# Altium schematic symbol library Altera.SchLib: 9 symbols (part 1 of 3)
Pins are listed as number, name and electrical type; pins without a type are passive.

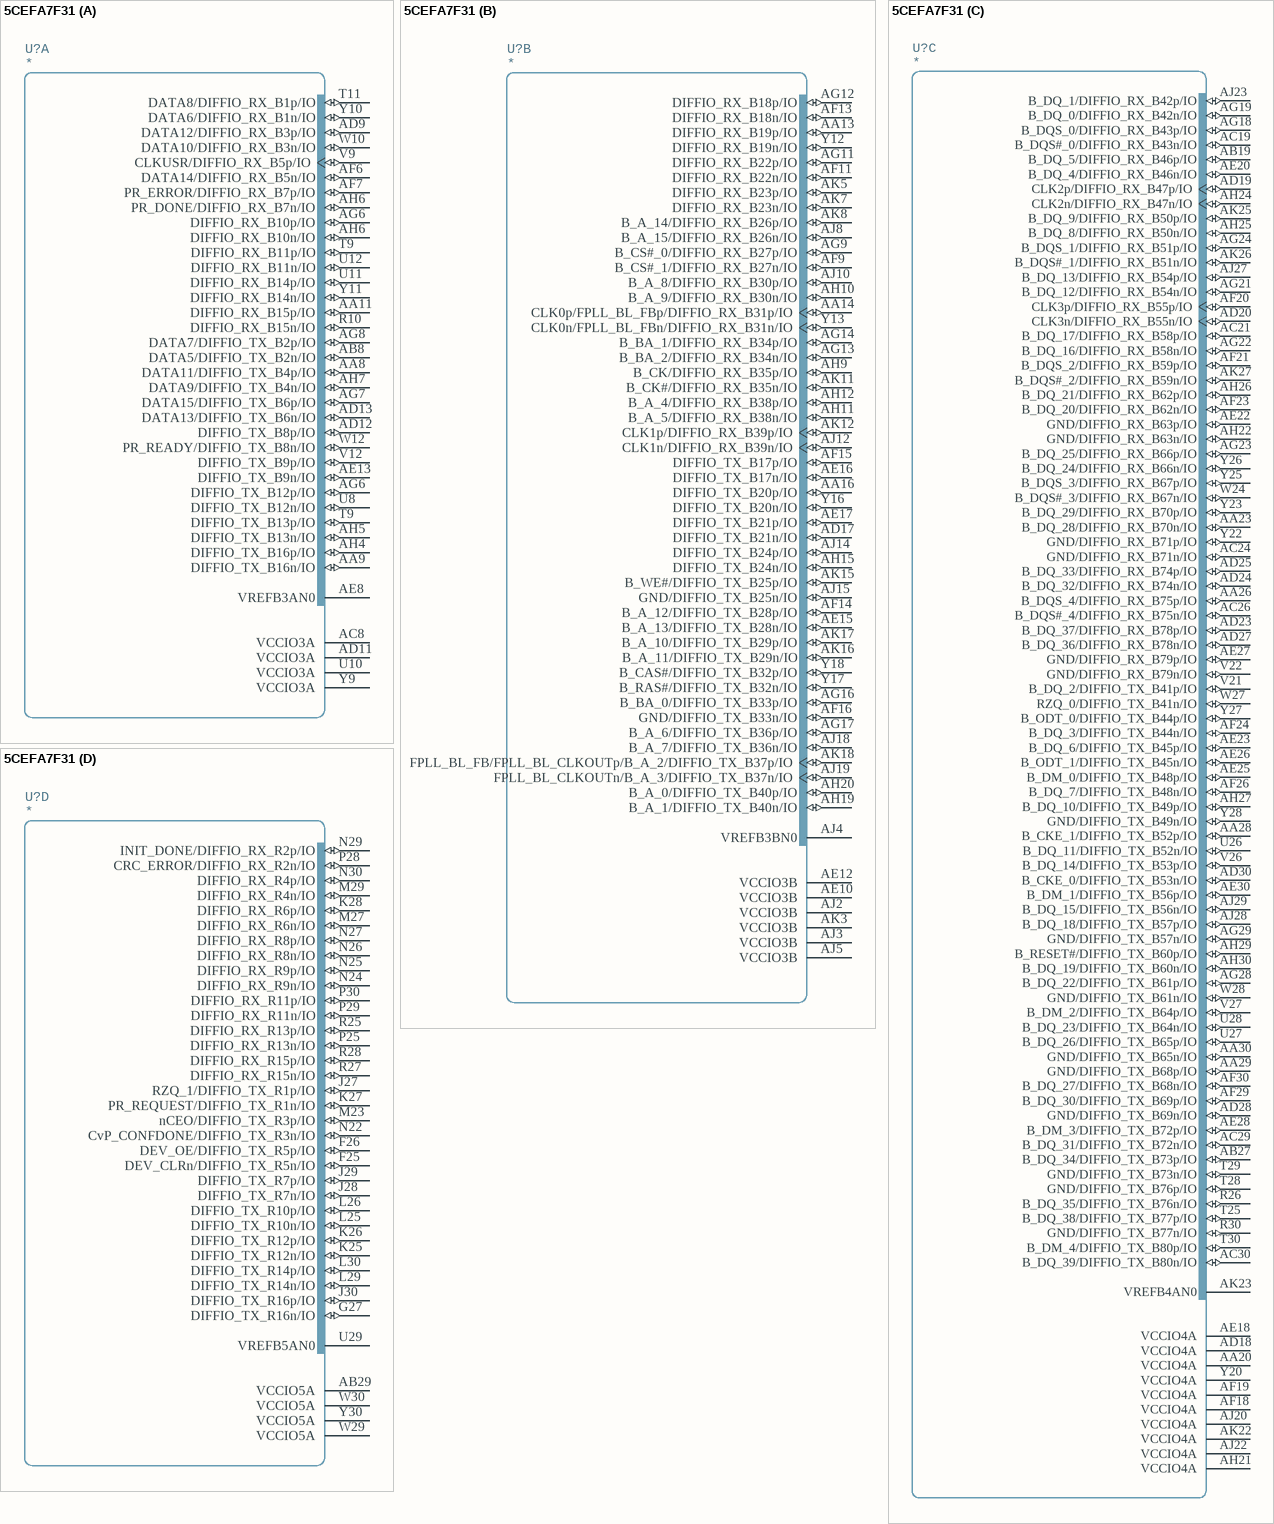
[diagram p0: symbol 5CEFA7F31]

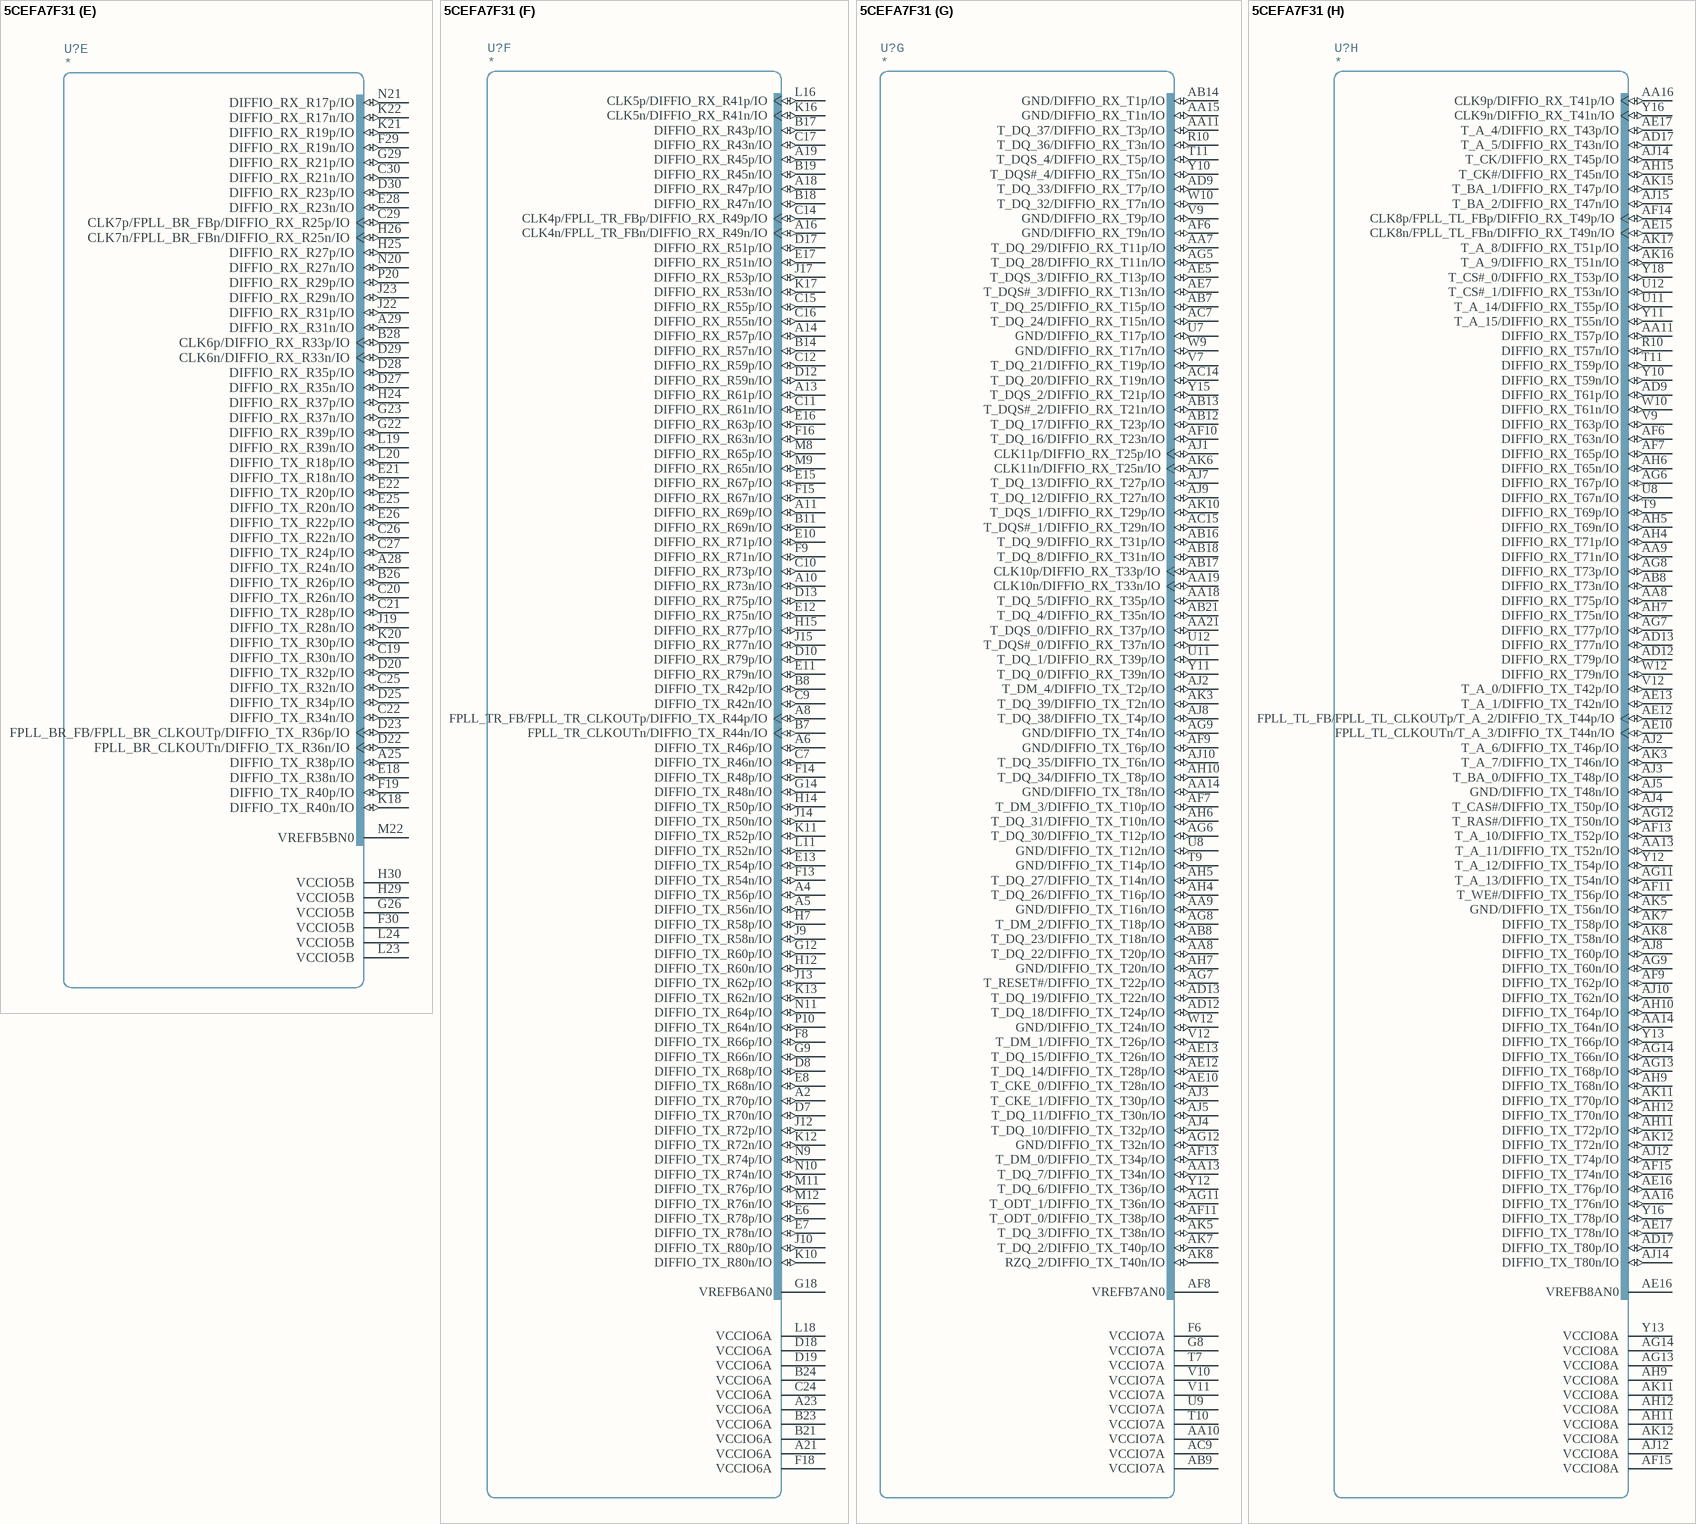
[diagram p1: symbol 5CEFA7F31]

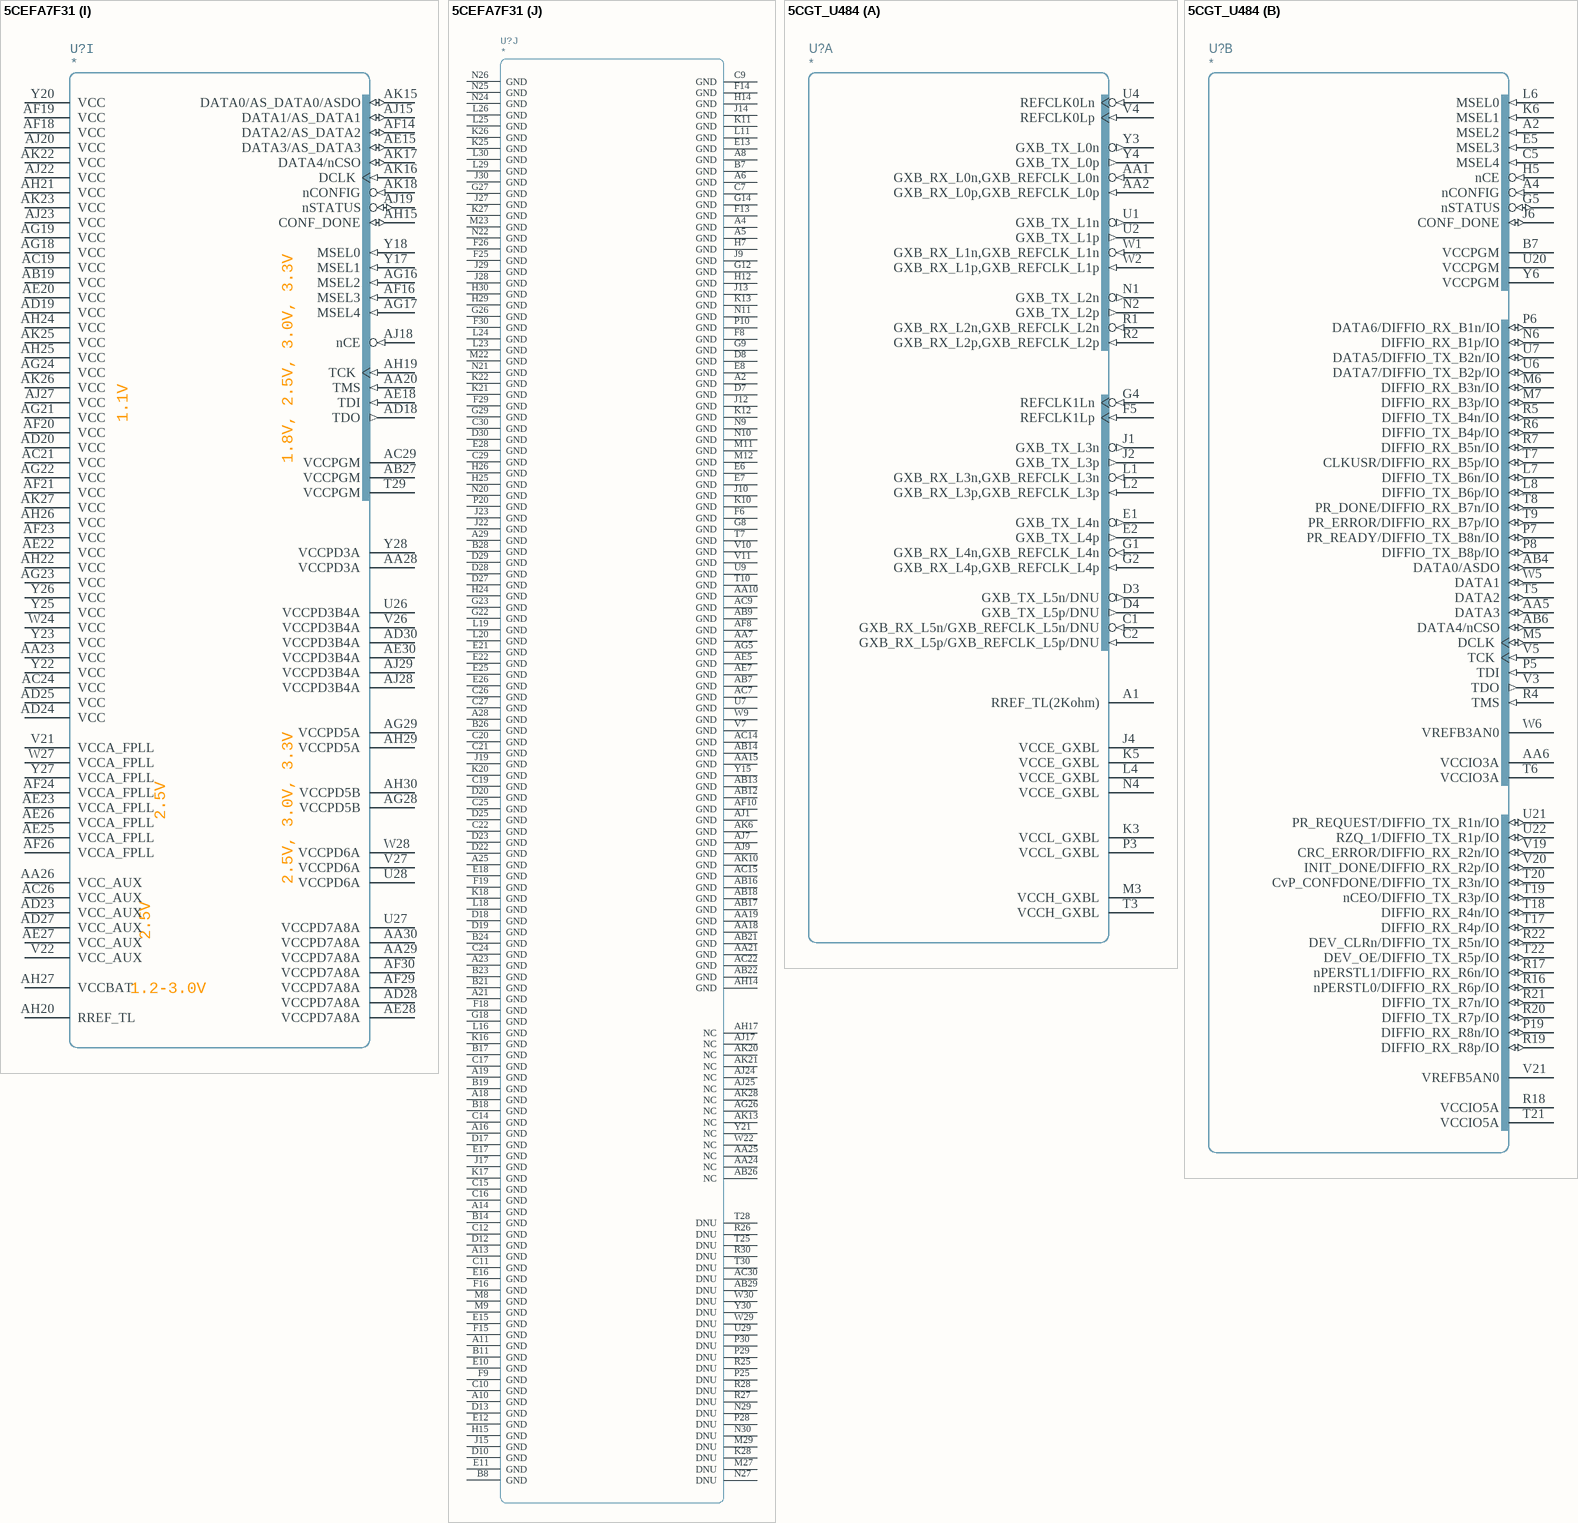
[diagram p2: symbols 5CEFA7F31 to 5CGT_U484]

## 5CEFA7F31
designator U?
part A pins: AA8 DATA11/DIFFIO_TX_B4p/IO (io), AA9 DIFFIO_TX_B16n/IO (io), AA11 DIFFIO_RX_B15p/IO (io), AB8 DATA5/DIFFIO_TX_B2n/IO (io), AC8 VCCIO3A, AD9 DATA12/DIFFIO_RX_B3p/IO (io), AD11 VCCIO3A, AD12 DIFFIO_TX_B8p/IO (io), AD13 DATA13/DIFFIO_TX_B6n/IO (io), AE8 VREFB3AN0, AE13 DIFFIO_TX_B9n/IO (io), AF6 DATA14/DIFFIO_RX_B5n/IO (io), AF7 PR_ERROR/DIFFIO_RX_B7p/IO (io), AG6 DIFFIO_RX_B10p/IO (io), AG6 DIFFIO_TX_B12p/IO (io), AG7 DATA15/DIFFIO_TX_B6p/IO (io), AG8 DATA7/DIFFIO_TX_B2p/IO (io), AH4 DIFFIO_TX_B16p/IO (io), AH5 DIFFIO_TX_B13n/IO (io), AH6 DIFFIO_RX_B10n/IO (io), AH6 PR_DONE/DIFFIO_RX_B7n/IO (io), AH7 DATA9/DIFFIO_TX_B4n/IO (io), R10 DIFFIO_RX_B15n/IO (io), T9 DIFFIO_RX_B11p/IO (io), T9 DIFFIO_TX_B13p/IO (io), T11 DATA8/DIFFIO_RX_B1p/IO (io), U8 DIFFIO_TX_B12n/IO (io), U10 VCCIO3A, U11 DIFFIO_RX_B14p/IO (io), U12 DIFFIO_RX_B11n/IO (io), V9 CLKUSR/DIFFIO_RX_B5p/IO (io), V12 DIFFIO_TX_B9p/IO (io), W10 DATA10/DIFFIO_RX_B3n/IO (io), W12 PR_READY/DIFFIO_TX_B8n/IO (io), Y9 VCCIO3A, Y10 DATA6/DIFFIO_RX_B1n/IO (io), Y11 DIFFIO_RX_B14n/IO (io)
part B pins: AA13 DIFFIO_RX_B19p/IO (io), AA14 CLK0p/FPLL_BL_FBp/DIFFIO_RX_B31p/IO (io), AA16 DIFFIO_TX_B20p/IO (io), AD17 DIFFIO_TX_B21n/IO (io), AE10 VCCIO3B, AE12 VCCIO3B, AE15 B_A_13/DIFFIO_TX_B28n/IO (io), AE16 DIFFIO_TX_B17n/IO (io), AE17 DIFFIO_TX_B21p/IO (io), AF9 B_CS#_1/DIFFIO_RX_B27n/IO (io), AF11 DIFFIO_RX_B22n/IO (io), AF13 DIFFIO_RX_B18n/IO (io), AF14 B_A_12/DIFFIO_TX_B28p/IO (io), AF15 DIFFIO_TX_B17p/IO (io), AF16 GND/DIFFIO_TX_B33n/IO (io), AG9 B_CS#_0/DIFFIO_RX_B27p/IO (io), AG11 DIFFIO_RX_B22p/IO (io), AG12 DIFFIO_RX_B18p/IO (io), AG13 B_BA_2/DIFFIO_RX_B34n/IO (io), AG14 B_BA_1/DIFFIO_RX_B34p/IO (io), AG16 B_BA_0/DIFFIO_TX_B33p/IO (io), AG17 B_A_6/DIFFIO_TX_B36p/IO (io), AH9 B_CK/DIFFIO_RX_B35p/IO (io), AH10 B_A_9/DIFFIO_RX_B30n/IO (io), AH11 B_A_5/DIFFIO_RX_B38n/IO (io), AH12 B_A_4/DIFFIO_RX_B38p/IO (io), AH15 DIFFIO_TX_B24n/IO (io), AH19 B_A_1/DIFFIO_TX_B40n/IO (io), AH20 B_A_0/DIFFIO_TX_B40p/IO (io), AJ2 VCCIO3B, AJ3 VCCIO3B, AJ4 VREFB3BN0, AJ5 VCCIO3B, AJ8 B_A_15/DIFFIO_RX_B26n/IO (io), AJ10 B_A_8/DIFFIO_RX_B30p/IO (io), AJ12 CLK1n/DIFFIO_RX_B39n/IO (io), AJ14 DIFFIO_TX_B24p/IO (io), AJ15 GND/DIFFIO_TX_B25n/IO (io), AJ18 B_A_7/DIFFIO_TX_B36n/IO (io), AJ19 FPLL_BL_CLKOUTn/B_A_3/DIFFIO_TX_B37n/IO (io), AK3 VCCIO3B, AK5 DIFFIO_RX_B23p/IO (io), AK7 DIFFIO_RX_B23n/IO (io), AK8 B_A_14/DIFFIO_RX_B26p/IO (io), AK11 B_CK#/DIFFIO_RX_B35n/IO (io), AK12 CLK1p/DIFFIO_RX_B39p/IO (io), AK15 B_WE#/DIFFIO_TX_B25p/IO (io), AK16 B_A_11/DIFFIO_TX_B29n/IO (io), AK17 B_A_10/DIFFIO_TX_B29p/IO (io), AK18 FPLL_BL_FB/FPLL_BL_CLKOUTp/B_A_2/DIFFIO_TX_B37p/IO (io), Y12 DIFFIO_RX_B19n/IO (io), Y13 CLK0n/FPLL_BL_FBn/DIFFIO_RX_B31n/IO (io), Y16 DIFFIO_TX_B20n/IO (io), Y17 B_RAS#/DIFFIO_TX_B32n/IO (io), Y18 B_CAS#/DIFFIO_TX_B32p/IO (io)
part C pins: AA20 VCCIO4A, AA23 B_DQ_28/DIFFIO_RX_B70n/IO (io), AA26 B_DQS_4/DIFFIO_RX_B75p/IO (io), AA28 B_CKE_1/DIFFIO_TX_B52p/IO (io), AA29 GND/DIFFIO_TX_B68p/IO (io), AA30 GND/DIFFIO_TX_B65n/IO (io), AB19 B_DQ_5/DIFFIO_RX_B46p/IO (io), AB27 B_DQ_34/DIFFIO_TX_B73p/IO (io), AC19 B_DQS#_0/DIFFIO_RX_B43n/IO (io), AC21 B_DQ_17/DIFFIO_RX_B58p/IO (io), AC24 GND/DIFFIO_RX_B71n/IO (io), AC26 B_DQS#_4/DIFFIO_RX_B75n/IO (io), AC29 B_DQ_31/DIFFIO_TX_B72n/IO (io), AC30 B_DQ_39/DIFFIO_TX_B80n/IO (io), AD18 VCCIO4A, AD19 CLK2p/DIFFIO_RX_B47p/IO (io), AD20 CLK3n/DIFFIO_RX_B55n/IO (io), AD23 B_DQ_37/DIFFIO_RX_B78p/IO (io), AD24 B_DQ_32/DIFFIO_RX_B74n/IO (io), AD25 B_DQ_33/DIFFIO_RX_B74p/IO (io), AD27 B_DQ_36/DIFFIO_RX_B78n/IO (io), AD28 GND/DIFFIO_TX_B69n/IO (io), AD30 B_CKE_0/DIFFIO_TX_B53n/IO (io), AE18 VCCIO4A, AE20 B_DQ_4/DIFFIO_RX_B46n/IO (io), AE22 GND/DIFFIO_RX_B63p/IO (io), AE23 B_DQ_6/DIFFIO_TX_B45p/IO (io), AE25 B_DM_0/DIFFIO_TX_B48p/IO (io), AE26 B_ODT_1/DIFFIO_TX_B45n/IO (io), AE27 GND/DIFFIO_RX_B79p/IO (io), AE28 B_DM_3/DIFFIO_TX_B72p/IO (io), AE30 B_DM_1/DIFFIO_TX_B56p/IO (io), AF18 VCCIO4A, AF19 VCCIO4A, AF20 CLK3p/DIFFIO_RX_B55p/IO (io), AF21 B_DQS_2/DIFFIO_RX_B59p/IO (io), AF23 B_DQ_20/DIFFIO_RX_B62n/IO (io), AF24 B_DQ_3/DIFFIO_TX_B44n/IO (io), AF26 B_DQ_7/DIFFIO_TX_B48n/IO (io), AF29 B_DQ_30/DIFFIO_TX_B69p/IO (io), AF30 B_DQ_27/DIFFIO_TX_B68n/IO (io), AG18 B_DQS_0/DIFFIO_RX_B43p/IO (io), AG19 B_DQ_0/DIFFIO_RX_B42n/IO (io), AG21 B_DQ_12/DIFFIO_RX_B54n/IO (io), AG22 B_DQ_16/DIFFIO_RX_B58n/IO (io), AG23 B_DQ_25/DIFFIO_RX_B66p/IO (io), AG24 B_DQS_1/DIFFIO_RX_B51p/IO (io), AG28 B_DQ_22/DIFFIO_TX_B61p/IO (io), AG29 GND/DIFFIO_TX_B57n/IO (io), AH21 VCCIO4A, AH22 GND/DIFFIO_RX_B63n/IO (io), AH24 CLK2n/DIFFIO_RX_B47n/IO (io), AH25 B_DQ_8/DIFFIO_RX_B50n/IO (io), AH26 B_DQ_21/DIFFIO_RX_B62p/IO (io), AH27 B_DQ_10/DIFFIO_TX_B49p/IO (io), AH29 B_RESET#/DIFFIO_TX_B60p/IO (io), AH30 B_DQ_19/DIFFIO_TX_B60n/IO (io), AJ20 VCCIO4A, AJ22 VCCIO4A, AJ23 B_DQ_1/DIFFIO_RX_B42p/IO (io), AJ27 B_DQ_13/DIFFIO_RX_B54p/IO (io), AJ28 B_DQ_18/DIFFIO_TX_B57p/IO (io), AJ29 B_DQ_15/DIFFIO_TX_B56n/IO (io), AK22 VCCIO4A, AK23 VREFB4AN0, AK25 B_DQ_9/DIFFIO_RX_B50p/IO (io), AK26 B_DQS#_1/DIFFIO_RX_B51n/IO (io), AK27 B_DQS#_2/DIFFIO_RX_B59n/IO (io), R26 B_DQ_35/DIFFIO_TX_B76n/IO (io), R30 GND/DIFFIO_TX_B77n/IO (io), T25 B_DQ_38/DIFFIO_TX_B77p/IO (io), T28 GND/DIFFIO_TX_B76p/IO (io), T29 GND/DIFFIO_TX_B73n/IO (io), T30 B_DM_4/DIFFIO_TX_B80p/IO (io), U26 B_DQ_11/DIFFIO_TX_B52n/IO (io), U27 B_DQ_26/DIFFIO_TX_B65p/IO (io), U28 B_DQ_23/DIFFIO_TX_B64n/IO (io), V21 B_DQ_2/DIFFIO_TX_B41p/IO (io), V22 GND/DIFFIO_RX_B79n/IO (io), V26 B_DQ_14/DIFFIO_TX_B53p/IO (io), V27 B_DM_2/DIFFIO_TX_B64p/IO (io), W24 B_DQS#_3/DIFFIO_RX_B67n/IO (io), W27 RZQ_0/DIFFIO_TX_B41n/IO (io), W28 GND/DIFFIO_TX_B61n/IO (io), Y20 VCCIO4A, Y22 GND/DIFFIO_RX_B71p/IO (io), Y23 B_DQ_29/DIFFIO_RX_B70p/IO (io), Y25 B_DQS_3/DIFFIO_RX_B67p/IO (io), Y26 B_DQ_24/DIFFIO_RX_B66n/IO (io), Y27 B_ODT_0/DIFFIO_TX_B44p/IO (io), Y28 GND/DIFFIO_TX_B49n/IO (io)
part D pins: AB29 VCCIO5A, F25 DEV_CLRn/DIFFIO_TX_R5n/IO (io), F26 DEV_OE/DIFFIO_TX_R5p/IO (io), G27 DIFFIO_TX_R16n/IO (io), J27 RZQ_1/DIFFIO_TX_R1p/IO (io), J28 DIFFIO_TX_R7n/IO (io), J29 DIFFIO_TX_R7p/IO (io), J30 DIFFIO_TX_R16p/IO (io), K25 DIFFIO_TX_R12n/IO (io), K26 DIFFIO_TX_R12p/IO (io), K27 PR_REQUEST/DIFFIO_TX_R1n/IO (io), K28 DIFFIO_RX_R6p/IO (io), L25 DIFFIO_TX_R10n/IO (io), L26 DIFFIO_TX_R10p/IO (io), L29 DIFFIO_TX_R14n/IO (io), L30 DIFFIO_TX_R14p/IO (io), M23 nCEO/DIFFIO_TX_R3p/IO (io), M27 DIFFIO_RX_R6n/IO (io), M29 DIFFIO_RX_R4n/IO (io), N22 CvP_CONFDONE/DIFFIO_TX_R3n/IO (io), N24 DIFFIO_RX_R9n/IO (io), N25 DIFFIO_RX_R9p/IO (io), N26 DIFFIO_RX_R8n/IO (io), N27 DIFFIO_RX_R8p/IO (io), N29 INIT_DONE/DIFFIO_RX_R2p/IO (io), N30 DIFFIO_RX_R4p/IO (io), P25 DIFFIO_RX_R13n/IO (io), P28 CRC_ERROR/DIFFIO_RX_R2n/IO (io), P29 DIFFIO_RX_R11n/IO (io), P30 DIFFIO_RX_R11p/IO (io), R25 DIFFIO_RX_R13p/IO (io), R27 DIFFIO_RX_R15n/IO (io), R28 DIFFIO_RX_R15p/IO (io), U29 VREFB5AN0, W29 VCCIO5A, W30 VCCIO5A, Y30 VCCIO5A
part E pins: A25 DIFFIO_TX_R38p/IO (io), A28 DIFFIO_TX_R24n/IO (io), A29 DIFFIO_RX_R31n/IO (io), B26 DIFFIO_TX_R26p/IO (io), B28 CLK6p/DIFFIO_RX_R33p/IO (io), C19 DIFFIO_TX_R30n/IO (io), C20 DIFFIO_TX_R26n/IO (io), C21 DIFFIO_TX_R28p/IO (io), C22 DIFFIO_TX_R34n/IO (io), C25 DIFFIO_TX_R32n/IO (io), C26 DIFFIO_TX_R22n/IO (io), C27 DIFFIO_TX_R24p/IO (io), C29 CLK7p/FPLL_BR_FBp/DIFFIO_RX_R25p/IO (io), C30 DIFFIO_RX_R21n/IO (io), D20 DIFFIO_TX_R32p/IO (io), D22 FPLL_BR_CLKOUTn/DIFFIO_TX_R36n/IO (io), D23 FPLL_BR_FB/FPLL_BR_CLKOUTp/DIFFIO_TX_R36p/IO (io), D25 DIFFIO_TX_R34p/IO (io), D27 DIFFIO_RX_R35n/IO (io), D28 DIFFIO_RX_R35p/IO (io), D29 CLK6n/DIFFIO_RX_R33n/IO (io), D30 DIFFIO_RX_R23p/IO (io), E18 DIFFIO_TX_R38n/IO (io), E21 DIFFIO_TX_R18n/IO (io), E22 DIFFIO_TX_R20p/IO (io), E25 DIFFIO_TX_R20n/IO (io), E26 DIFFIO_TX_R22p/IO (io), E28 DIFFIO_RX_R23n/IO (io), F19 DIFFIO_TX_R40p/IO (io), F29 DIFFIO_RX_R19n/IO (io), F30 VCCIO5B, G22 DIFFIO_RX_R39p/IO (io), G23 DIFFIO_RX_R37n/IO (io), G26 VCCIO5B, G29 DIFFIO_RX_R21p/IO (io), H24 DIFFIO_RX_R37p/IO (io), H25 DIFFIO_RX_R27p/IO (io), H26 CLK7n/FPLL_BR_FBn/DIFFIO_RX_R25n/IO (io), H29 VCCIO5B, H30 VCCIO5B, J19 DIFFIO_TX_R28n/IO (io), J22 DIFFIO_RX_R31p/IO (io), J23 DIFFIO_RX_R29n/IO (io), K18 DIFFIO_TX_R40n/IO (io), K20 DIFFIO_TX_R30p/IO (io), K21 DIFFIO_RX_R19p/IO (io), K22 DIFFIO_RX_R17n/IO (io), L19 DIFFIO_RX_R39n/IO (io), L20 DIFFIO_TX_R18p/IO (io), L23 VCCIO5B, L24 VCCIO5B, M22 VREFB5BN0, N20 DIFFIO_RX_R27n/IO (io), N21 DIFFIO_RX_R17p/IO (io), P20 DIFFIO_RX_R29p/IO (io)
part F pins: A2 DIFFIO_TX_R70p/IO (io), A4 DIFFIO_TX_R56p/IO (io), A5 DIFFIO_TX_R56n/IO (io), A6 DIFFIO_TX_R46p/IO (io), A8 FPLL_TR_FB/FPLL_TR_CLKOUTp/DIFFIO_TX_R44p/IO (io), A10 DIFFIO_RX_R73n/IO (io), A11 DIFFIO_RX_R69p/IO (io), A13 DIFFIO_RX_R61p/IO (io), A14 DIFFIO_RX_R57p/IO (io), A16 CLK4n/FPLL_TR_FBn/DIFFIO_RX_R49n/IO (io), A18 DIFFIO_RX_R47p/IO (io), A19 DIFFIO_RX_R45p/IO (io), A21 VCCIO6A, A23 VCCIO6A, B7 FPLL_TR_CLKOUTn/DIFFIO_TX_R44n/IO (io), B8 DIFFIO_TX_R42p/IO (io), B11 DIFFIO_RX_R69n/IO (io), B14 DIFFIO_RX_R57n/IO (io), B17 DIFFIO_RX_R43p/IO (io), B18 DIFFIO_RX_R47n/IO (io), B19 DIFFIO_RX_R45n/IO (io), B21 VCCIO6A, B23 VCCIO6A, B24 VCCIO6A, C7 DIFFIO_TX_R46n/IO (io), C9 DIFFIO_TX_R42n/IO (io), C10 DIFFIO_RX_R73p/IO (io), C11 DIFFIO_RX_R61n/IO (io), C12 DIFFIO_RX_R59p/IO (io), C14 CLK4p/FPLL_TR_FBp/DIFFIO_RX_R49p/IO (io), C15 DIFFIO_RX_R55p/IO (io), C16 DIFFIO_RX_R55n/IO (io), C17 DIFFIO_RX_R43n/IO (io), C24 VCCIO6A, D7 DIFFIO_TX_R70n/IO (io), D8 DIFFIO_TX_R68p/IO (io), D10 DIFFIO_RX_R79p/IO (io), D12 DIFFIO_RX_R59n/IO (io), D13 DIFFIO_RX_R75p/IO (io), D17 DIFFIO_RX_R51p/IO (io), D18 VCCIO6A, D19 VCCIO6A, E6 DIFFIO_TX_R78p/IO (io), E7 DIFFIO_TX_R78n/IO (io), E8 DIFFIO_TX_R68n/IO (io), E10 DIFFIO_RX_R71p/IO (io), E11 DIFFIO_RX_R79n/IO (io), E12 DIFFIO_RX_R75n/IO (io), E13 DIFFIO_TX_R54p/IO (io), E15 DIFFIO_RX_R67p/IO (io), E16 DIFFIO_RX_R63p/IO (io), E17 DIFFIO_RX_R51n/IO (io), F8 DIFFIO_TX_R66p/IO (io), F9 DIFFIO_RX_R71n/IO (io), F13 DIFFIO_TX_R54n/IO (io), F14 DIFFIO_TX_R48p/IO (io), F15 DIFFIO_RX_R67n/IO (io), F16 DIFFIO_RX_R63n/IO (io), F18 VCCIO6A, G9 DIFFIO_TX_R66n/IO (io), G12 DIFFIO_TX_R60p/IO (io), G14 DIFFIO_TX_R48n/IO (io), G18 VREFB6AN0, H7 DIFFIO_TX_R58p/IO (io), H12 DIFFIO_TX_R60n/IO (io), H14 DIFFIO_TX_R50p/IO (io), H15 DIFFIO_RX_R77p/IO (io), J9 DIFFIO_TX_R58n/IO (io), J10 DIFFIO_TX_R80p/IO (io), J12 DIFFIO_TX_R72p/IO (io), J13 DIFFIO_TX_R62p/IO (io), J14 DIFFIO_TX_R50n/IO (io), J15 DIFFIO_RX_R77n/IO (io), J17 DIFFIO_RX_R53p/IO (io), K10 DIFFIO_TX_R80n/IO (io), K11 DIFFIO_TX_R52p/IO (io), K12 DIFFIO_TX_R72n/IO (io), K13 DIFFIO_TX_R62n/IO (io), K16 CLK5n/DIFFIO_RX_R41n/IO (io), K17 DIFFIO_RX_R53n/IO (io), L11 DIFFIO_TX_R52n/IO (io), L16 CLK5p/DIFFIO_RX_R41p/IO (io), L18 VCCIO6A, M8 DIFFIO_RX_R65p/IO (io), M9 DIFFIO_RX_R65n/IO (io), M11 DIFFIO_TX_R76p/IO (io), M12 DIFFIO_TX_R76n/IO (io), N9 DIFFIO_TX_R74p/IO (io), N10 DIFFIO_TX_R74n/IO (io), N11 DIFFIO_TX_R64p/IO (io), P10 DIFFIO_TX_R64n/IO (io)
part G pins: AA7 T_DQ_29/DIFFIO_RX_T11p/IO (io), AA8 T_DQ_22/DIFFIO_TX_T20p/IO (io), AA9 GND/DIFFIO_TX_T16n/IO (io), AA10 VCCIO7A, AA11 T_DQ_37/DIFFIO_RX_T3p/IO (io), AA13 T_DQ_7/DIFFIO_TX_T34n/IO (io), AA14 GND/DIFFIO_TX_T8n/IO (io), AA15 GND/DIFFIO_RX_T1n/IO (io), AA18 T_DQ_5/DIFFIO_RX_T35p/IO (io), AA19 CLK10n/DIFFIO_RX_T33n/IO (io), AA21 T_DQS_0/DIFFIO_RX_T37p/IO (io), AB7 T_DQ_25/DIFFIO_RX_T15p/IO (io), AB8 T_DQ_23/DIFFIO_TX_T18n/IO (io), AB9 VCCIO7A, AB12 T_DQ_17/DIFFIO_RX_T23p/IO (io), AB13 T_DQS#_2/DIFFIO_RX_T21n/IO (io), AB14 GND/DIFFIO_RX_T1p/IO (io), AB16 T_DQ_9/DIFFIO_RX_T31p/IO (io), AB17 CLK10p/DIFFIO_RX_T33p/IO (io), AB18 T_DQ_8/DIFFIO_RX_T31n/IO (io), AB21 T_DQ_4/DIFFIO_RX_T35n/IO (io), AC7 T_DQ_24/DIFFIO_RX_T15n/IO (io), AC9 VCCIO7A, AC14 T_DQ_20/DIFFIO_RX_T19n/IO (io), AC15 T_DQS#_1/DIFFIO_RX_T29n/IO (io), AD9 T_DQ_33/DIFFIO_RX_T7p/IO (io), AD12 T_DQ_18/DIFFIO_TX_T24p/IO (io), AD13 T_DQ_19/DIFFIO_TX_T22n/IO (io), AE5 T_DQS_3/DIFFIO_RX_T13p/IO (io), AE7 T_DQS#_3/DIFFIO_RX_T13n/IO (io), AE10 T_CKE_0/DIFFIO_TX_T28n/IO (io), AE12 T_DQ_14/DIFFIO_TX_T28p/IO (io), AE13 T_DQ_15/DIFFIO_TX_T26n/IO (io), AF6 GND/DIFFIO_RX_T9n/IO (io), AF7 T_DM_3/DIFFIO_TX_T10p/IO (io), AF8 VREFB7AN0, AF9 GND/DIFFIO_TX_T6p/IO (io), AF10 T_DQ_16/DIFFIO_RX_T23n/IO (io), AF11 T_ODT_0/DIFFIO_TX_T38p/IO (io), AF13 T_DM_0/DIFFIO_TX_T34p/IO (io), AG5 T_DQ_28/DIFFIO_RX_T11n/IO (io), AG6 T_DQ_30/DIFFIO_TX_T12p/IO (io), AG7 T_RESET#/DIFFIO_TX_T22p/IO (io), AG8 T_DM_2/DIFFIO_TX_T18p/IO (io), AG9 GND/DIFFIO_TX_T4n/IO (io), AG11 T_ODT_1/DIFFIO_TX_T36n/IO (io), AG12 GND/DIFFIO_TX_T32n/IO (io), AH4 T_DQ_26/DIFFIO_TX_T16p/IO (io), AH5 T_DQ_27/DIFFIO_TX_T14n/IO (io), AH6 T_DQ_31/DIFFIO_TX_T10n/IO (io), AH7 GND/DIFFIO_TX_T20n/IO (io), AH10 T_DQ_34/DIFFIO_TX_T8p/IO (io), AJ1 CLK11p/DIFFIO_RX_T25p/IO (io), AJ2 T_DM_4/DIFFIO_TX_T2p/IO (io), AJ3 T_CKE_1/DIFFIO_TX_T30p/IO (io), AJ4 T_DQ_10/DIFFIO_TX_T32p/IO (io), AJ5 T_DQ_11/DIFFIO_TX_T30n/IO (io), AJ7 T_DQ_13/DIFFIO_RX_T27p/IO (io), AJ8 T_DQ_38/DIFFIO_TX_T4p/IO (io), AJ9 T_DQ_12/DIFFIO_RX_T27n/IO (io), AJ10 T_DQ_35/DIFFIO_TX_T6n/IO (io), AK3 T_DQ_39/DIFFIO_TX_T2n/IO (io), AK5 T_DQ_3/DIFFIO_TX_T38n/IO (io), AK6 CLK11n/DIFFIO_RX_T25n/IO (io), AK7 T_DQ_2/DIFFIO_TX_T40p/IO (io), AK8 RZQ_2/DIFFIO_TX_T40n/IO (io), AK10 T_DQS_1/DIFFIO_RX_T29p/IO (io), F6 VCCIO7A, G8 VCCIO7A, R10 T_DQ_36/DIFFIO_RX_T3n/IO (io), T7 VCCIO7A, T9 GND/DIFFIO_TX_T14p/IO (io), T10 VCCIO7A, T11 T_DQS_4/DIFFIO_RX_T5p/IO (io), U7 GND/DIFFIO_RX_T17p/IO (io), U8 GND/DIFFIO_TX_T12n/IO (io), U9 VCCIO7A, U11 T_DQ_1/DIFFIO_RX_T39p/IO (io), U12 T_DQS#_0/DIFFIO_RX_T37n/IO (io), V7 T_DQ_21/DIFFIO_RX_T19p/IO (io), V9 GND/DIFFIO_RX_T9p/IO (io), V10 VCCIO7A, V11 VCCIO7A, V12 T_DM_1/DIFFIO_TX_T26p/IO (io), W9 GND/DIFFIO_RX_T17n/IO (io), W10 T_DQ_32/DIFFIO_RX_T7n/IO (io), W12 GND/DIFFIO_TX_T24n/IO (io), Y10 T_DQS#_4/DIFFIO_RX_T5n/IO (io), Y11 T_DQ_0/DIFFIO_RX_T39n/IO (io), Y12 T_DQ_6/DIFFIO_TX_T36p/IO (io), Y15 T_DQS_2/DIFFIO_RX_T21p/IO (io)
part H pins: AA8 DIFFIO_RX_T75p/IO (io), AA9 DIFFIO_RX_T71n/IO (io), AA11 DIFFIO_RX_T57p/IO (io), AA13 T_A_11/DIFFIO_TX_T52n/IO (io), AA14 DIFFIO_TX_T64n/IO (io), AA16 CLK9p/DIFFIO_RX_T41p/IO (io), AA16 DIFFIO_TX_T76n/IO (io), AB8 DIFFIO_RX_T73n/IO (io), AD9 DIFFIO_RX_T61p/IO (io), AD12 DIFFIO_RX_T79p/IO (io), AD13 DIFFIO_RX_T77n/IO (io), AD17 T_A_5/DIFFIO_RX_T43n/IO (io), AD17 DIFFIO_TX_T80p/IO (io), AE10 FPLL_TL_CLKOUTn/T_A_3/DIFFIO_TX_T44n/IO (io), AE12 FPLL_TL_FB/FPLL_TL_CLKOUTp/T_A_2/DIFFIO_TX_T44p/IO (io), AE13 T_A_1/DIFFIO_TX_T42n/IO (io), AE15 CLK8n/FPLL_TL_FBn/DIFFIO_RX_T49n/IO (io), AE16 VREFB8AN0, AE16 DIFFIO_TX_T76p/IO (io), AE17 T_A_4/DIFFIO_RX_T43p/IO (io), AE17 DIFFIO_TX_T78n/IO (io), AF6 DIFFIO_RX_T63n/IO (io), AF7 DIFFIO_RX_T65p/IO (io), AF9 DIFFIO_TX_T62p/IO (io), AF11 T_WE#/DIFFIO_TX_T56p/IO (io), AF13 T_A_10/DIFFIO_TX_T52p/IO (io), AF14 CLK8p/FPLL_TL_FBp/DIFFIO_RX_T49p/IO (io), AF15 VCCIO8A, AF15 DIFFIO_TX_T74n/IO (io), AG6 DIFFIO_RX_T67p/IO (io), AG7 DIFFIO_RX_T77p/IO (io), AG8 DIFFIO_RX_T73p/IO (io), AG9 DIFFIO_TX_T60n/IO (io), AG11 T_A_13/DIFFIO_TX_T54n/IO (io), AG12 T_RAS#/DIFFIO_TX_T50n/IO (io), AG13 VCCIO8A, AG13 DIFFIO_TX_T68p/IO (io), AG14 VCCIO8A, AG14 DIFFIO_TX_T66n/IO (io), AH4 DIFFIO_RX_T71p/IO (io), AH5 DIFFIO_RX_T69n/IO (io), AH6 DIFFIO_RX_T65n/IO (io), AH7 DIFFIO_RX_T75n/IO (io), AH9 VCCIO8A, AH9 DIFFIO_TX_T68n/IO (io), AH10 DIFFIO_TX_T64p/IO (io), AH11 VCCIO8A, AH11 DIFFIO_TX_T72p/IO (io), AH12 VCCIO8A, AH12 DIFFIO_TX_T70n/IO (io), AH15 T_CK#/DIFFIO_RX_T45n/IO (io), AJ2 T_A_6/DIFFIO_TX_T46p/IO (io), AJ3 T_BA_0/DIFFIO_TX_T48p/IO (io), AJ4 T_CAS#/DIFFIO_TX_T50p/IO (io), AJ5 GND/DIFFIO_TX_T48n/IO (io), AJ8 DIFFIO_TX_T60p/IO (io), AJ10 DIFFIO_TX_T62n/IO (io), AJ12 VCCIO8A, AJ12 DIFFIO_TX_T74p/IO (io), AJ14 T_CK/DIFFIO_RX_T45p/IO (io), AJ14 DIFFIO_TX_T80n/IO (io), AJ15 T_BA_2/DIFFIO_RX_T47n/IO (io), AK3 T_A_7/DIFFIO_TX_T46n/IO (io), AK5 GND/DIFFIO_TX_T56n/IO (io), AK7 DIFFIO_TX_T58p/IO (io), AK8 DIFFIO_TX_T58n/IO (io), AK11 VCCIO8A, AK11 DIFFIO_TX_T70p/IO (io), AK12 VCCIO8A, AK12 DIFFIO_TX_T72n/IO (io), AK15 T_BA_1/DIFFIO_RX_T47p/IO (io), AK16 T_A_9/DIFFIO_RX_T51n/IO (io), AK17 T_A_8/DIFFIO_RX_T51p/IO (io), R10 DIFFIO_RX_T57n/IO (io), T9 DIFFIO_RX_T69p/IO (io), T11 DIFFIO_RX_T59p/IO (io), U8 DIFFIO_RX_T67n/IO (io), U11 T_A_14/DIFFIO_RX_T55p/IO (io), U12 T_CS#_1/DIFFIO_RX_T53n/IO (io), V9 DIFFIO_RX_T63p/IO (io), V12 T_A_0/DIFFIO_TX_T42p/IO (io), W10 DIFFIO_RX_T61n/IO (io), W12 DIFFIO_RX_T79n/IO (io), Y10 DIFFIO_RX_T59n/IO (io), Y11 T_A_15/DIFFIO_RX_T55n/IO (io), Y12 T_A_12/DIFFIO_TX_T54p/IO (io), Y13 VCCIO8A, Y13 DIFFIO_TX_T66p/IO (io), Y16 CLK9n/DIFFIO_RX_T41n/IO (io), Y16 DIFFIO_TX_T78p/IO (io), Y18 T_CS#_0/DIFFIO_RX_T53p/IO (io)
part I pins: AA20 TMS (in), AA23 VCC, AA26 VCC_AUX, AA28 VCCPD3A, AA29 VCCPD7A8A, AA30 VCCPD7A8A, AB19 VCC, AB27 VCCPGM, AC19 VCC, AC21 VCC, AC24 VCC, AC26 VCC_AUX, AC29 VCCPGM, AD18 TDO (out), AD19 VCC, AD20 VCC, AD23 VCC_AUX, AD24 VCC, AD25 VCC, AD27 VCC_AUX, AD28 VCCPD7A8A, AD30 VCCPD3B4A, AE15 DATA3/AS_DATA3 (io), AE18 TDI (in), AE20 VCC, AE22 VCC, AE23 VCCA_FPLL, AE25 VCCA_FPLL, AE26 VCCA_FPLL, AE27 VCC_AUX, AE28 VCCPD7A8A, AE30 VCCPD3B4A, AF14 DATA2/AS_DATA2 (io), AF16 MSEL3 (in), AF18 VCC, AF19 VCC, AF20 VCC, AF21 VCC, AF23 VCC, AF24 VCCA_FPLL, AF26 VCCA_FPLL, AF29 VCCPD7A8A, AF30 VCCPD7A8A, AG16 MSEL2 (in), AG17 MSEL4 (in), AG18 VCC, AG19 VCC, AG21 VCC, AG22 VCC, AG23 VCC, AG24 VCC, AG28 VCCPD5B, AG29 VCCPD5A, AH15 CONF_DONE (io), AH19 TCK (in), AH20 RREF_TL, AH21 VCC, AH22 VCC, AH24 VCC, AH25 VCC, AH26 VCC, AH27 VCCBAT, AH29 VCCPD5A, AH30 VCCPD5B, AJ15 DATA1/AS_DATA1 (io), AJ18 nCE (in), AJ19 nSTATUS (io), AJ20 VCC, AJ22 VCC, AJ23 VCC, AJ27 VCC, AJ28 VCCPD3B4A, AJ29 VCCPD3B4A, AK15 DATA0/AS_DATA0/ASDO (io), AK16 DCLK (in), AK17 DATA4/nCSO (io), AK18 nCONFIG (in), AK22 VCC, AK23 VCC, AK25 VCC, AK26 VCC, AK27 VCC, T29 VCCPGM, U26 VCCPD3B4A, U27 VCCPD7A8A, U28 VCCPD6A, V21 VCCA_FPLL, V22 VCC_AUX, V26 VCCPD3B4A, V27 VCCPD6A, W24 VCC, W27 VCCA_FPLL, W28 VCCPD6A, Y17 MSEL1 (in), Y18 MSEL0 (in), Y20 VCC, Y22 VCC, Y23 VCC, Y25 VCC, Y26 VCC, Y27 VCCA_FPLL, Y28 VCCPD3A
part J pins: A2 GND, A4 GND, A5 GND, A6 GND, A8 GND, A10 GND, A11 GND, A13 GND, A14 GND, A16 GND, A18 GND, A19 GND, A21 GND, A23 GND, A25 GND, A28 GND, A29 GND, AA7 GND, AA10 GND, AA15 GND, AA18 GND, AA19 GND, AA21 GND, AA24 NC, AA25 NC, AB7 GND, AB9 GND, AB12 GND, AB13 GND, AB14 GND, AB16 GND, AB17 GND, AB18 GND, AB21 GND, AB22 GND, AB26 NC, AB29 DNU, AC7 GND, AC9 GND, AC14 GND, AC15 GND, AC22 GND, AC30 DNU, AE5 GND, AE7 GND, AF8 GND, AF10 GND, AG5 GND, AG26 NC, AH14 GND, AH17 NC, AJ1 GND, AJ7 GND, AJ9 GND, AJ17 NC, AJ24 NC, AJ25 NC, AK6 GND, AK10 GND, AK13 NC, AK20 NC, AK21 NC, AK28 NC, B7 GND, B8 GND, B11 GND, B14 GND, B17 GND, B18 GND, B19 GND, B21 GND, B23 GND, B24 GND, B26 GND, B28 GND, C7 GND, C9 GND, C10 GND, C11 GND, C12 GND, C14 GND, C15 GND, C16 GND, C17 GND, C19 GND, C20 GND, C21 GND, C22 GND, C24 GND, C25 GND, C26 GND, C27 GND, C29 GND, C30 GND, D7 GND, D8 GND, D10 GND, D12 GND, D13 GND, D17 GND, D18 GND, D19 GND, D20 GND, D22 GND, D23 GND, D25 GND, D27 GND, D28 GND, D29 GND, D30 GND, E6 GND, E7 GND, E8 GND, E10 GND, E11 GND, E12 GND, E13 GND, E15 GND, E16 GND, E17 GND, E18 GND, E21 GND, E22 GND, E25 GND, E26 GND, E28 GND, F6 GND, F8 GND, F9 GND, F13 GND, F14 GND, F15 GND, F16 GND, F18 GND, F19 GND, F25 GND, F26 GND, F29 GND, F30 GND, G8 GND, G9 GND, G12 GND, G14 GND, G18 GND, G22 GND, G23 GND, G26 GND, G27 GND, G29 GND, H7 GND, H12 GND, H14 GND, H15 GND, H24 GND, H25 GND, H26 GND, H29 GND, H30 GND, J9 GND, J10 GND, J12 GND, J13 GND, J14 GND, J15 GND, J17 GND, J19 GND, J22 GND, J23 GND, J27 GND, J28 GND, J29 GND, J30 GND, K10 GND, K11 GND, K12 GND, K13 GND, K16 GND, K17 GND, K18 GND, K20 GND, K21 GND, K22 GND, K25 GND, K26 GND, K27 GND, K28 DNU, L11 GND, L16 GND, L18 GND, L19 GND, L20 GND, L23 GND, L24 GND, L25 GND, L26 GND, L29 GND, L30 GND, M8 GND, M9 GND, M11 GND, M12 GND, M22 GND, M23 GND, M27 DNU, M29 DNU, N9 GND, N10 GND, N11 GND, N20 GND, N21 GND, N22 GND, N24 GND, N25 GND, N26 GND, N27 DNU, N29 DNU, N30 DNU, P10 GND, P20 GND, P25 DNU, P28 DNU, P29 DNU, P30 DNU, R25 DNU, R26 DNU, R27 DNU, R28 DNU, R30 DNU, T7 GND, T10 GND, T25 DNU, T28 DNU, T30 DNU, U7 GND, U9 GND, U29 DNU, V7 GND, V10 GND, V11 GND, W9 GND, W22 NC, W29 DNU, W30 DNU, Y15 GND, Y21 NC, Y30 DNU
part I text: 1.8V, 2.5V, 3.0V, 3.3V; 1.1V; 2.5V; 2.5V, 3.0V, 3.3V; 1.2-3.0V

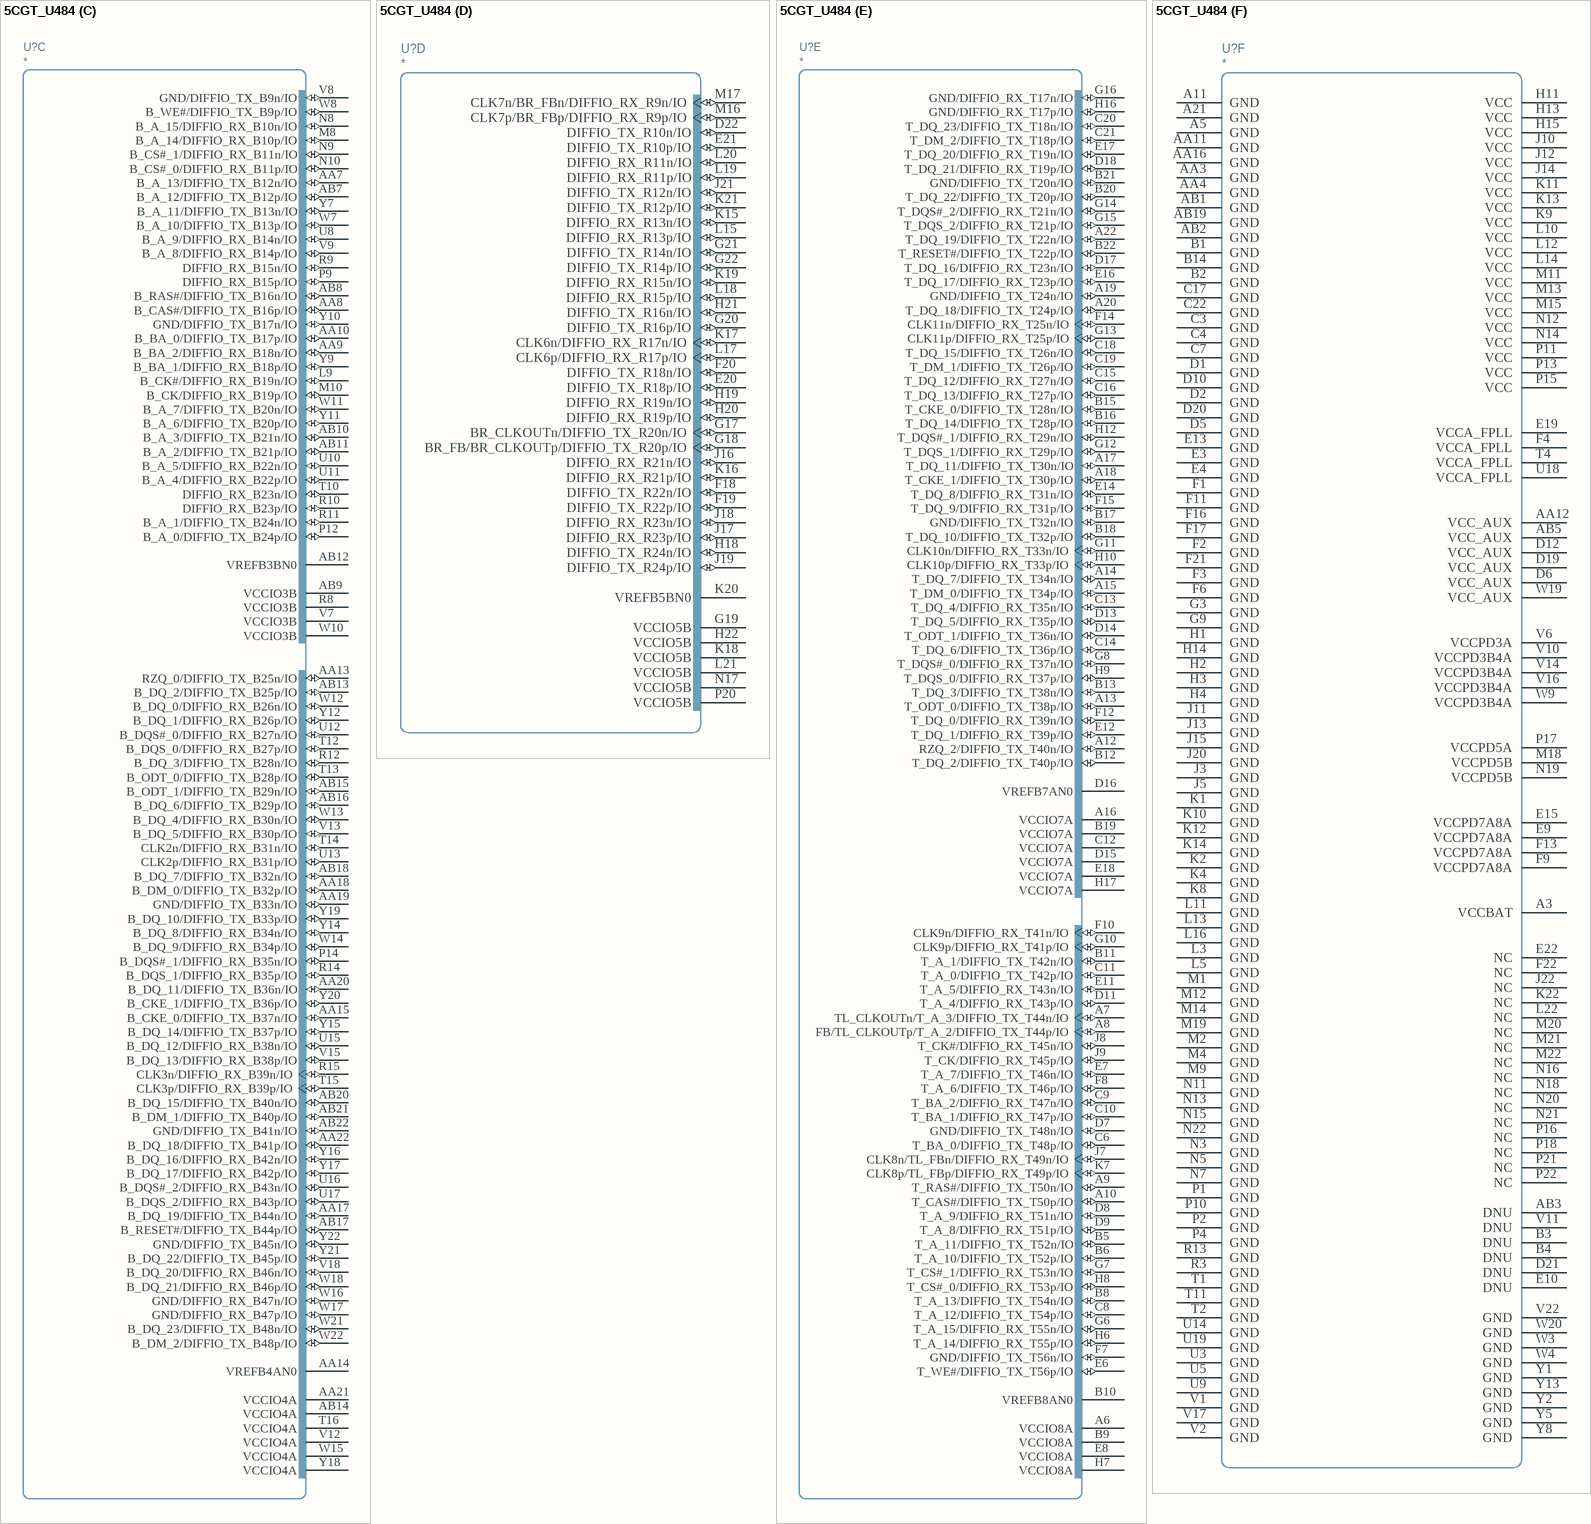
[diagram p3: symbol 5CGT_U484]

## 5CGT_U484
designator U?
part A pins: A1 RREF_TL(2Kohm), AA1 GXB_RX_L0n,GXB_REFCLK_L0n (in), AA2 GXB_RX_L0p,GXB_REFCLK_L0p (in), C1 GXB_RX_L5n/GXB_REFCLK_L5n/DNU (in), C2 GXB_RX_L5p/GXB_REFCLK_L5p/DNU (in), D3 GXB_TX_L5n/DNU (out), D4 GXB_TX_L5p/DNU (out), E1 GXB_TX_L4n (out), E2 GXB_TX_L4p (out), F5 REFCLK1Lp (in), G1 GXB_RX_L4n,GXB_REFCLK_L4n (in), G2 GXB_RX_L4p,GXB_REFCLK_L4p (in), G4 REFCLK1Ln (in), J1 GXB_TX_L3n (out), J2 GXB_TX_L3p (out), J4 VCCE_GXBL, K3 VCCL_GXBL, K5 VCCE_GXBL, L1 GXB_RX_L3n,GXB_REFCLK_L3n (in), L2 GXB_RX_L3p,GXB_REFCLK_L3p (in), L4 VCCE_GXBL, M3 VCCH_GXBL, N1 GXB_TX_L2n (out), N2 GXB_TX_L2p (out), N4 VCCE_GXBL, P3 VCCL_GXBL, R1 GXB_RX_L2n,GXB_REFCLK_L2n (in), R2 GXB_RX_L2p,GXB_REFCLK_L2p (in), T3 VCCH_GXBL, U1 GXB_TX_L1n (out), U2 GXB_TX_L1p (out), U4 REFCLK0Ln (in), V4 REFCLK0Lp (in), W1 GXB_RX_L1n,GXB_REFCLK_L1n (in), W2 GXB_RX_L1p,GXB_REFCLK_L1p (in), Y3 GXB_TX_L0n (out), Y4 GXB_TX_L0p (out)
part B pins: A2 MSEL2 (in), A4 nCONFIG (in), AA5 DATA3 (io), AA6 VCCIO3A, AB4 DATA0/ASDO (io), AB6 DATA4/nCSO (io), B7 VCCPGM, C5 MSEL4 (in), E5 MSEL3 (in), G5 nSTATUS (io), H5 nCE (in), J6 CONF_DONE (io), K6 MSEL1 (in), L6 MSEL0 (in), L7 DIFFIO_TX_B6n/IO (io), L8 DIFFIO_TX_B6p/IO (io), M5 DCLK (io), M6 DIFFIO_RX_B3n/IO (io), M7 DIFFIO_RX_B3p/IO (io), N6 DIFFIO_RX_B1p/IO (io), P5 TDI (in), P6 DATA6/DIFFIO_RX_B1n/IO (io), P7 PR_READY/DIFFIO_TX_B8n/IO (io), P8 DIFFIO_TX_B8p/IO (io), P19 DIFFIO_RX_R8n/IO (io), R4 TMS (in), R5 DIFFIO_TX_B4n/IO (io), R6 DIFFIO_TX_B4p/IO (io), R7 DIFFIO_RX_B5n/IO (io), R16 nPERSTL0/DIFFIO_RX_R6p/IO (io), R17 nPERSTL1/DIFFIO_RX_R6n/IO (io), R18 VCCIO5A, R19 DIFFIO_RX_R8p/IO (io), R20 DIFFIO_TX_R7p/IO (io), R21 DIFFIO_TX_R7n/IO (io), R22 DEV_CLRn/DIFFIO_TX_R5n/IO (io), T5 DATA2 (io), T6 VCCIO3A, T7 CLKUSR/DIFFIO_RX_B5p/IO (io), T8 PR_DONE/DIFFIO_RX_B7n/IO (io), T9 PR_ERROR/DIFFIO_RX_B7p/IO (io), T17 DIFFIO_RX_R4p/IO (io), T18 DIFFIO_RX_R4n/IO (io), T19 nCEO/DIFFIO_TX_R3p/IO (io), T20 CvP_CONFDONE/DIFFIO_TX_R3n/IO (io), T21 VCCIO5A, T22 DEV_OE/DIFFIO_TX_R5p/IO (io), U6 DATA7/DIFFIO_TX_B2p/IO (io), U7 DATA5/DIFFIO_TX_B2n/IO (io), U20 VCCPGM, U21 PR_REQUEST/DIFFIO_TX_R1n/IO (io), U22 RZQ_1/DIFFIO_TX_R1p/IO (io), V3 TDO (out), V5 TCK (in), V19 CRC_ERROR/DIFFIO_RX_R2n/IO (io), V20 INIT_DONE/DIFFIO_RX_R2p/IO (io), V21 VREFB5AN0, W5 DATA1 (io), W6 VREFB3AN0, Y6 VCCPGM
part C pins: AA7 B_A_13/DIFFIO_TX_B12n/IO (io), AA8 B_CAS#/DIFFIO_TX_B16p/IO (io), AA9 B_BA_2/DIFFIO_RX_B18n/IO (io), AA10 B_BA_0/DIFFIO_TX_B17p/IO (io), AA13 RZQ_0/DIFFIO_TX_B25n/IO (io), AA14 VREFB4AN0, AA15 B_CKE_0/DIFFIO_TX_B37n/IO (io), AA17 B_DQ_19/DIFFIO_TX_B44n/IO (io), AA18 B_DM_0/DIFFIO_TX_B32p/IO (io), AA19 GND/DIFFIO_TX_B33n/IO (io), AA20 B_DQ_11/DIFFIO_TX_B36n/IO (io), AA21 VCCIO4A, AA22 B_DQ_18/DIFFIO_TX_B41p/IO (io), AB7 B_A_12/DIFFIO_TX_B12p/IO (io), AB8 B_RAS#/DIFFIO_TX_B16n/IO (io), AB9 VCCIO3B, AB10 B_A_3/DIFFIO_TX_B21n/IO (io), AB11 B_A_2/DIFFIO_TX_B21p/IO (io), AB12 VREFB3BN0, AB13 B_DQ_2/DIFFIO_TX_B25p/IO (io), AB14 VCCIO4A, AB15 B_ODT_1/DIFFIO_TX_B29n/IO (io), AB16 B_DQ_6/DIFFIO_TX_B29p/IO (io), AB17 B_RESET#/DIFFIO_TX_B44p/IO (io), AB18 B_DQ_7/DIFFIO_TX_B32n/IO (io), AB20 B_DQ_15/DIFFIO_TX_B40n/IO (io), AB21 B_DM_1/DIFFIO_TX_B40p/IO (io), AB22 GND/DIFFIO_TX_B41n/IO (io), L9 B_CK#/DIFFIO_RX_B19n/IO (io), M8 B_A_14/DIFFIO_RX_B10p/IO (io), M10 B_CK/DIFFIO_RX_B19p/IO (io), N8 B_A_15/DIFFIO_RX_B10n/IO (io), N9 B_CS#_1/DIFFIO_RX_B11n/IO (io), N10 B_CS#_0/DIFFIO_RX_B11p/IO (io), P9 DIFFIO_RX_B15p/IO (io), P12 B_A_0/DIFFIO_TX_B24p/IO (io), P14 B_DQS#_1/DIFFIO_RX_B35n/IO (io), R8 VCCIO3B, R9 DIFFIO_RX_B15n/IO (io), R10 DIFFIO_RX_B23p/IO (io), R11 B_A_1/DIFFIO_TX_B24n/IO (io), R12 B_DQ_3/DIFFIO_TX_B28n/IO (io), R14 B_DQS_1/DIFFIO_RX_B35p/IO (io), R15 CLK3n/DIFFIO_RX_B39n/IO (io), T10 DIFFIO_RX_B23n/IO (io), T12 B_DQS_0/DIFFIO_RX_B27p/IO (io), T13 B_ODT_0/DIFFIO_TX_B28p/IO (io), T14 CLK2n/DIFFIO_RX_B31n/IO (io), T15 CLK3p/DIFFIO_RX_B39p/IO (io), T16 VCCIO4A, U8 B_A_9/DIFFIO_RX_B14n/IO (io), U10 B_A_5/DIFFIO_RX_B22n/IO (io), U11 B_A_4/DIFFIO_RX_B22p/IO (io), U12 B_DQS#_0/DIFFIO_RX_B27n/IO (io), U13 CLK2p/DIFFIO_RX_B31p/IO (io), U15 B_DQ_12/DIFFIO_RX_B38n/IO (io), U16 B_DQS#_2/DIFFIO_RX_B43n/IO (io), U17 B_DQS_2/DIFFIO_RX_B43p/IO (io), V7 VCCIO3B, V8 GND/DIFFIO_TX_B9n/IO (io), V9 B_A_8/DIFFIO_RX_B14p/IO (io), V12 VCCIO4A, V13 B_DQ_5/DIFFIO_RX_B30p/IO (io), V15 B_DQ_13/DIFFIO_RX_B38p/IO (io), V18 B_DQ_20/DIFFIO_RX_B46n/IO (io), W7 B_A_10/DIFFIO_TX_B13p/IO (io), W8 B_WE#/DIFFIO_TX_B9p/IO (io), W10 VCCIO3B, W11 B_A_7/DIFFIO_TX_B20n/IO (io), W12 B_DQ_0/DIFFIO_RX_B26n/IO (io), W13 B_DQ_4/DIFFIO_RX_B30n/IO (io), W14 B_DQ_9/DIFFIO_RX_B34p/IO (io), W15 VCCIO4A, W16 GND/DIFFIO_RX_B47n/IO (io), W17 GND/DIFFIO_RX_B47p/IO (io), W18 B_DQ_21/DIFFIO_RX_B46p/IO (io), W21 B_DQ_23/DIFFIO_TX_B48n/IO (io), W22 B_DM_2/DIFFIO_TX_B48p/IO (io), Y7 B_A_11/DIFFIO_TX_B13n/IO (io), Y9 B_BA_1/DIFFIO_RX_B18p/IO (io), Y10 GND/DIFFIO_TX_B17n/IO (io), Y11 B_A_6/DIFFIO_TX_B20p/IO (io), Y12 B_DQ_1/DIFFIO_RX_B26p/IO (io), Y14 B_DQ_8/DIFFIO_RX_B34n/IO (io), Y15 B_DQ_14/DIFFIO_TX_B37p/IO (io), Y16 B_DQ_16/DIFFIO_RX_B42n/IO (io), Y17 B_DQ_17/DIFFIO_RX_B42p/IO (io), Y18 VCCIO4A, Y19 B_DQ_10/DIFFIO_TX_B33p/IO (io), Y20 B_CKE_1/DIFFIO_TX_B36p/IO (io), Y21 B_DQ_22/DIFFIO_TX_B45p/IO (io), Y22 GND/DIFFIO_TX_B45n/IO (io)
part D pins: D22 DIFFIO_TX_R10n/IO (io), E20 DIFFIO_TX_R18p/IO (io), E21 DIFFIO_TX_R10p/IO (io), F18 DIFFIO_TX_R22n/IO (io), F19 DIFFIO_TX_R22p/IO (io), F20 DIFFIO_TX_R18n/IO (io), G17 BR_CLKOUTn/DIFFIO_TX_R20n/IO (io), G18 BR_FB/BR_CLKOUTp/DIFFIO_TX_R20p/IO (io), G19 VCCIO5B, G20 DIFFIO_TX_R16p/IO (io), G21 DIFFIO_TX_R14n/IO (io), G22 DIFFIO_TX_R14p/IO (io), H18 DIFFIO_TX_R24n/IO (io), H19 DIFFIO_RX_R19n/IO (io), H20 DIFFIO_RX_R19p/IO (io), H21 DIFFIO_TX_R16n/IO (io), H22 VCCIO5B, J16 DIFFIO_RX_R21n/IO (io), J17 DIFFIO_RX_R23p/IO (io), J18 DIFFIO_RX_R23n/IO (io), J19 DIFFIO_TX_R24p/IO (io), J21 DIFFIO_TX_R12n/IO (io), K15 DIFFIO_RX_R13n/IO (io), K16 DIFFIO_RX_R21p/IO (io), K17 CLK6n/DIFFIO_RX_R17n/IO (io), K18 VCCIO5B, K19 DIFFIO_RX_R15n/IO (io), K20 VREFB5BN0, K21 DIFFIO_TX_R12p/IO (io), L15 DIFFIO_RX_R13p/IO (io), L17 CLK6p/DIFFIO_RX_R17p/IO (io), L18 DIFFIO_RX_R15p/IO (io), L19 DIFFIO_RX_R11p/IO (io), L20 DIFFIO_RX_R11n/IO (io), L21 VCCIO5B, M16 CLK7p/BR_FBp/DIFFIO_RX_R9p/IO (io), M17 CLK7n/BR_FBn/DIFFIO_RX_R9n/IO (io), N17 VCCIO5B, P20 VCCIO5B
part E pins: A6 VCCIO8A, A7 TL_CLKOUTn/T_A_3/DIFFIO_TX_T44n/IO (io), A8 FB/TL_CLKOUTp/T_A_2/DIFFIO_TX_T44p/IO (io), A9 T_RAS#/DIFFIO_TX_T50n/IO (io), A10 T_CAS#/DIFFIO_TX_T50p/IO (io), A12 RZQ_2/DIFFIO_TX_T40n/IO (io), A13 T_ODT_0/DIFFIO_TX_T38p/IO (io), A14 T_DQ_7/DIFFIO_TX_T34n/IO (io), A15 T_DM_0/DIFFIO_TX_T34p/IO (io), A16 VCCIO7A, A17 T_DQ_11/DIFFIO_TX_T30n/IO (io), A18 T_CKE_1/DIFFIO_TX_T30p/IO (io), A19 GND/DIFFIO_TX_T24n/IO (io), A20 T_DQ_18/DIFFIO_TX_T24p/IO (io), A22 T_DQ_19/DIFFIO_TX_T22n/IO (io), B5 T_A_11/DIFFIO_TX_T52n/IO (io), B6 T_A_10/DIFFIO_TX_T52p/IO (io), B8 T_A_13/DIFFIO_TX_T54n/IO (io), B9 VCCIO8A, B10 VREFB8AN0, B11 T_A_1/DIFFIO_TX_T42n/IO (io), B12 T_DQ_2/DIFFIO_TX_T40p/IO (io), B13 T_DQ_3/DIFFIO_TX_T38n/IO (io), B15 T_CKE_0/DIFFIO_TX_T28n/IO (io), B16 T_DQ_14/DIFFIO_TX_T28p/IO (io), B17 GND/DIFFIO_TX_T32n/IO (io), B18 T_DQ_10/DIFFIO_TX_T32p/IO (io), B19 VCCIO7A, B20 T_DQ_22/DIFFIO_TX_T20p/IO (io), B21 GND/DIFFIO_TX_T20n/IO (io), B22 T_RESET#/DIFFIO_TX_T22p/IO (io), C6 T_BA_0/DIFFIO_TX_T48p/IO (io), C8 T_A_12/DIFFIO_TX_T54p/IO (io), C9 T_BA_2/DIFFIO_RX_T47n/IO (io), C10 T_BA_1/DIFFIO_RX_T47p/IO (io), C11 T_A_0/DIFFIO_TX_T42p/IO (io), C12 VCCIO7A, C13 T_DQ_4/DIFFIO_RX_T35n/IO (io), C14 T_DQ_6/DIFFIO_TX_T36p/IO (io), C15 T_DQ_12/DIFFIO_RX_T27n/IO (io), C16 T_DQ_13/DIFFIO_RX_T27p/IO (io), C18 T_DQ_15/DIFFIO_TX_T26n/IO (io), C19 T_DM_1/DIFFIO_TX_T26p/IO (io), C20 T_DQ_23/DIFFIO_TX_T18n/IO (io), C21 T_DM_2/DIFFIO_TX_T18p/IO (io), D7 GND/DIFFIO_TX_T48n/IO (io), D8 T_A_9/DIFFIO_RX_T51n/IO (io), D9 T_A_8/DIFFIO_RX_T51p/IO (io), D11 T_A_4/DIFFIO_RX_T43p/IO (io), D13 T_DQ_5/DIFFIO_RX_T35p/IO (io), D14 T_ODT_1/DIFFIO_TX_T36n/IO (io), D15 VCCIO7A, D16 VREFB7AN0, D17 T_DQ_16/DIFFIO_RX_T23n/IO (io), D18 T_DQ_21/DIFFIO_RX_T19p/IO (io), E6 T_WE#/DIFFIO_TX_T56p/IO (io), E7 T_A_7/DIFFIO_TX_T46n/IO (io), E8 VCCIO8A, E11 T_A_5/DIFFIO_RX_T43n/IO (io), E12 T_DQ_1/DIFFIO_RX_T39p/IO (io), E14 T_DQ_8/DIFFIO_RX_T31n/IO (io), E16 T_DQ_17/DIFFIO_RX_T23p/IO (io), E17 T_DQ_20/DIFFIO_RX_T19n/IO (io), E18 VCCIO7A, F7 GND/DIFFIO_TX_T56n/IO (io), F8 T_A_6/DIFFIO_TX_T46p/IO (io), F10 CLK9n/DIFFIO_RX_T41n/IO (io), F12 T_DQ_0/DIFFIO_RX_T39n/IO (io), F14 CLK11n/DIFFIO_RX_T25n/IO (io), F15 T_DQ_9/DIFFIO_RX_T31p/IO (io), G6 T_A_15/DIFFIO_RX_T55n/IO (io), G7 T_CS#_1/DIFFIO_RX_T53n/IO (io), G8 T_DQS#_0/DIFFIO_RX_T37n/IO (io), G10 CLK9p/DIFFIO_RX_T41p/IO (io), G11 CLK10n/DIFFIO_RX_T33n/IO (io), G12 T_DQS_1/DIFFIO_RX_T29p/IO (io), G13 CLK11p/DIFFIO_RX_T25p/IO (io), G14 T_DQS#_2/DIFFIO_RX_T21n/IO (io), G15 T_DQS_2/DIFFIO_RX_T21p/IO (io), G16 GND/DIFFIO_RX_T17n/IO (io), H6 T_A_14/DIFFIO_RX_T55p/IO (io), H7 VCCIO8A, H8 T_CS#_0/DIFFIO_RX_T53p/IO (io), H9 T_DQS_0/DIFFIO_RX_T37p/IO (io), H10 CLK10p/DIFFIO_RX_T33p/IO (io), H12 T_DQS#_1/DIFFIO_RX_T29n/IO (io), H16 GND/DIFFIO_RX_T17p/IO (io), H17 VCCIO7A, J7 CLK8n/TL_FBn/DIFFIO_RX_T49n/IO (io), J8 T_CK#/DIFFIO_RX_T45n/IO (io), J9 T_CK/DIFFIO_RX_T45p/IO (io), K7 CLK8p/TL_FBp/DIFFIO_RX_T49p/IO (io)
part F pins: A3 VCCBAT, A5 GND, A11 GND, A21 GND, AA3 GND, AA4 GND, AA11 GND, AA12 VCC_AUX, AA16 GND, AB1 GND, AB2 GND, AB3 DNU, AB5 VCC_AUX, AB19 GND, B1 GND, B2 GND, B3 DNU, B4 DNU, B14 GND, C3 GND, C4 GND, C7 GND, C17 GND, C22 GND, D1 GND, D2 GND, D5 GND, D6 VCC_AUX, D10 GND, D12 VCC_AUX, D19 VCC_AUX, D20 GND, D21 DNU, E3 GND, E4 GND, E9 VCCPD7A8A, E10 DNU, E13 GND, E15 VCCPD7A8A, E19 VCCA_FPLL, E22 NC, F1 GND, F2 GND, F3 GND, F4 VCCA_FPLL, F6 GND, F9 VCCPD7A8A, F11 GND, F13 VCCPD7A8A, F16 GND, F17 GND, F21 GND, F22 NC, G3 GND, G9 GND, H1 GND, H2 GND, H3 GND, H4 GND, H11 VCC, H13 VCC, H14 GND, H15 VCC, J3 GND, J5 GND, J10 VCC, J11 GND, J12 VCC, J13 GND, J14 VCC, J15 GND, J20 GND, J22 NC, K1 GND, K2 GND, K4 GND, K8 GND, K9 VCC, K10 GND, K11 VCC, K12 GND, K13 VCC, K14 GND, K22 NC, L3 GND, L5 GND, L10 VCC, L11 GND, L12 VCC, L13 GND, L14 VCC, L16 GND, L22 NC, M1 GND, M2 GND, M4 GND, M9 GND, M11 VCC, M12 GND, M13 VCC, M14 GND, M15 VCC, M18 VCCPD5B, M19 GND, M20 NC, M21 NC, M22 NC, N3 GND, N5 GND, N7 GND, N11 GND, N12 VCC, N13 GND, N14 VCC, N15 GND, N16 NC, N18 NC, N19 VCCPD5B, N20 NC, N21 NC, N22 GND, P1 GND, P2 GND, P4 GND, P10 GND, P11 VCC, P13 VCC, P15 VCC, P16 NC, P17 VCCPD5A, P18 NC, P21 NC, P22 NC, R3 GND, R13 GND, T1 GND, T2 GND, T4 VCCA_FPLL, T11 GND, U3 GND, U5 GND, U9 GND, U14 GND, U18 VCCA_FPLL, U19 GND, V1 GND, V2 GND, V6 VCCPD3A, V10 VCCPD3B4A, V11 DNU, V14 VCCPD3B4A, V16 VCCPD3B4A, V17 GND, V22 GND, W3 GND, W4 GND, W9 VCCPD3B4A, W19 VCC_AUX, W20 GND, Y1 GND, Y2 GND, Y5 GND, Y8 GND, Y13 GND

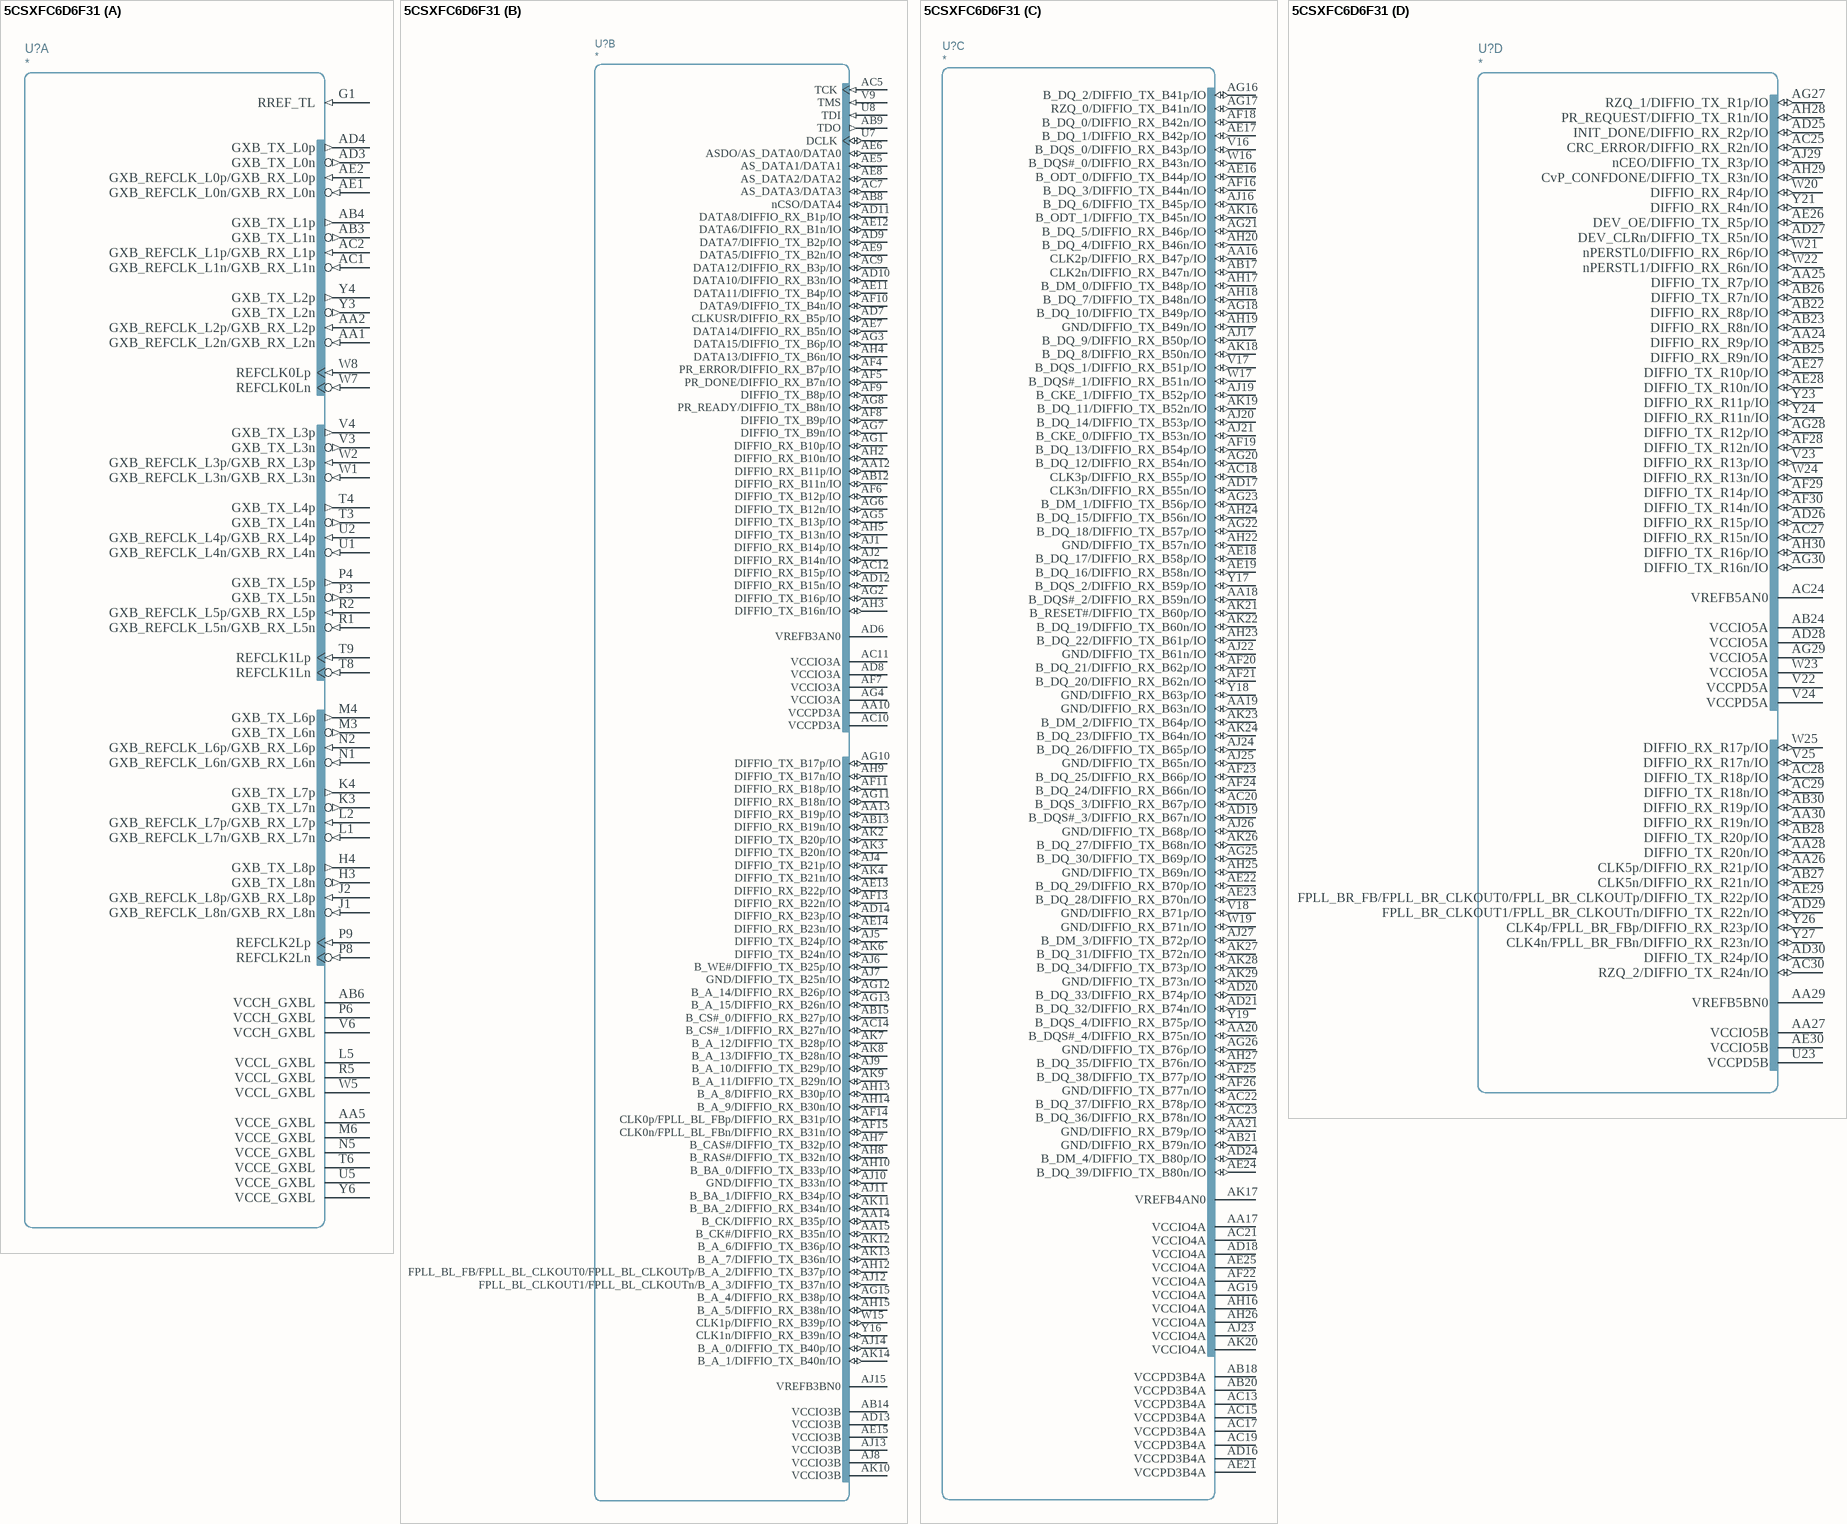
[diagram p4: symbol 5CSXFC6D6F31]

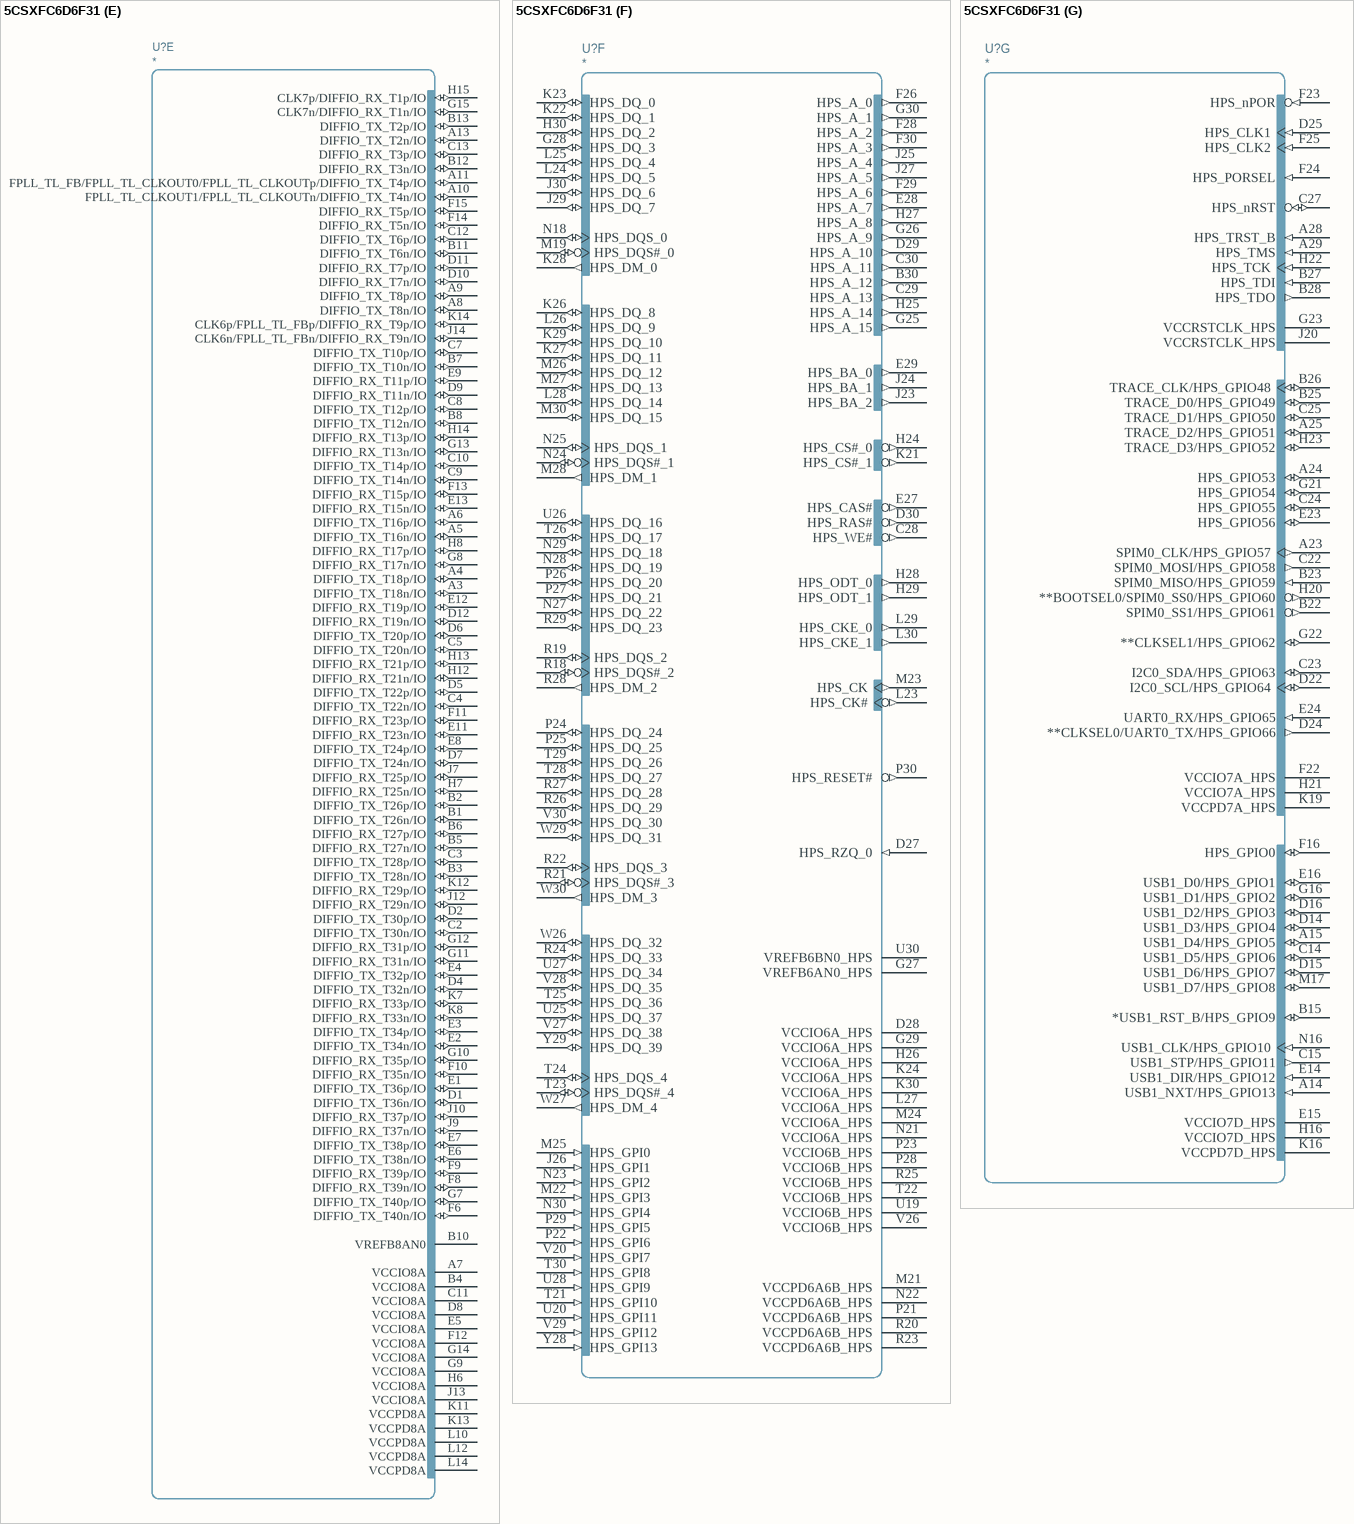
[diagram p5: symbol 5CSXFC6D6F31]

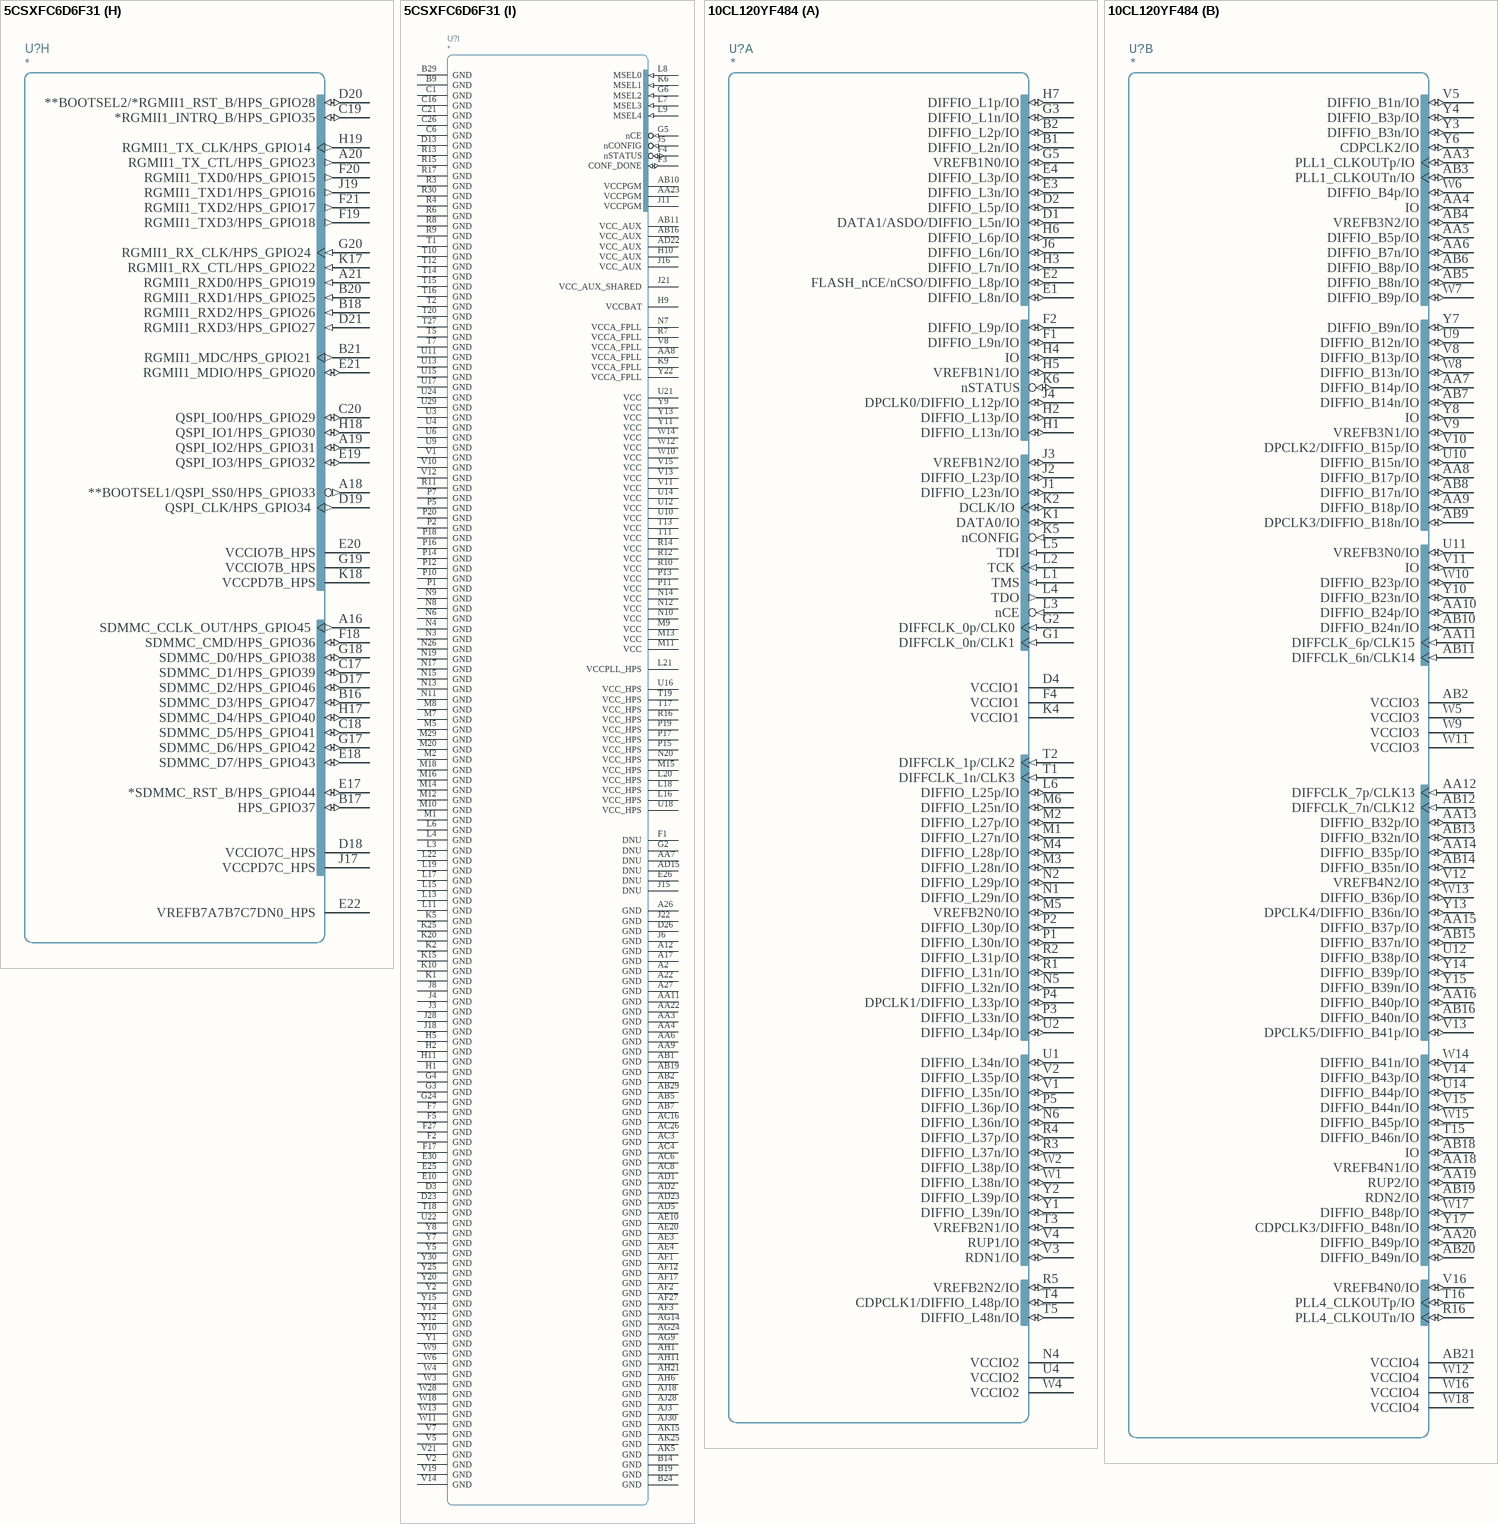
[diagram p6: symbols 5CSXFC6D6F31 to 10CL120YF484]